# Altium integrated library Kondensator_DIP.IntLib: 1521 symbols (part 1 of 5)
Pins are listed as number, name and electrical type; pins without a type are passive.

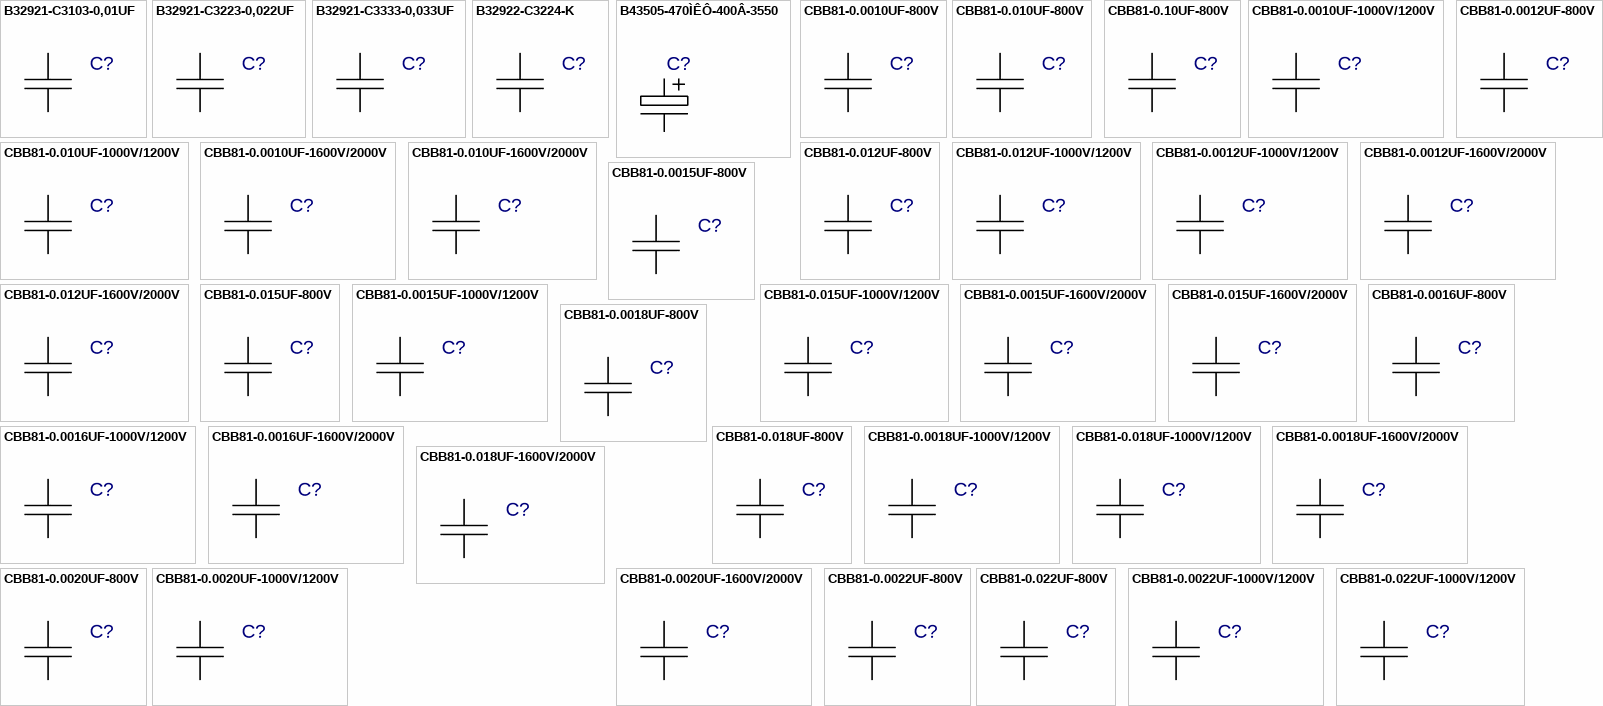
[diagram p0: symbols B32921-C3103-0,01UF to CBB81-0.022UF-1000V/1200V]

## B32921-C3103-0,01UF
designator C?  (value not drawn)
Value: *
footprint B32921(13X4)
pins: 1, 2

## B32921-C3223-0,022UF
designator C?  (value not drawn)
Value: *
footprint B32921(13X4)
pins: 1, 2

## B32921-C3333-0,033UF
designator C?  (value not drawn)
Value: *
footprint B32921(13X4)
pins: 1, 2

## B32922-C3224-K
designator C?  (value not drawn)
Value: *
footprint B32652A6104J
pins: 1, 2

## B43505-470ÌÊÔ-400Â-3550
designator C?  (value not drawn)
Value: *
footprint B43505-3550
pins: 1, 2, 3 hidden

## CBB81-0.0010UF-800V
designator C?  (value not drawn)
Value: *
footprint CBB81-18P5_7
pins: 1, 2

## CBB81-0.010UF-800V
designator C?  (value not drawn)
Value: *
footprint CBB81-18P5_12
pins: 1, 2

## CBB81-0.10UF-800V
designator C?  (value not drawn)
Value: *
footprint CBB81-26_13
pins: 1, 2

## CBB81-0.0010UF-1000V/1200V
designator C?  (value not drawn)
Value: *
footprint CBB81-18P5_7
pins: 1, 2

## CBB81-0.010UF-1000V/1200V
designator C?  (value not drawn)
Value: *
footprint CBB81-23_9
pins: 1, 2

## CBB81-0.0010UF-1600V/2000V
designator C?  (value not drawn)
Value: *
footprint CBB81-18P5_7
pins: 1, 2

## CBB81-0.010UF-1600V/2000V
designator C?  (value not drawn)
Value: *
footprint CBB81-29_8P5
pins: 1, 2

## CBB81-0.0012UF-800V
designator C?  (value not drawn)
Value: *
footprint CBB81-18P5_7
pins: 1, 2

## CBB81-0.012UF-800V
designator C?  (value not drawn)
Value: *
footprint CBB81-18P5_8
pins: 1, 2

## CBB81-0.012UF-1000V/1200V
designator C?  (value not drawn)
Value: *
footprint CBB81-23_10
pins: 1, 2

## CBB81-0.0012UF-1000V/1200V
designator C?  (value not drawn)
Value: *
footprint CBB81-18P5_7
pins: 1, 2

## CBB81-0.0012UF-1600V/2000V
designator C?  (value not drawn)
Value: *
footprint CBB81-18P5_7
pins: 1, 2

## CBB81-0.012UF-1600V/2000V
designator C?  (value not drawn)
Value: *
footprint CBB81-29_9P5
pins: 1, 2

## CBB81-0.0015UF-800V
designator C?  (value not drawn)
Value: *
footprint CBB81-18P5_7P5
pins: 1, 2

## CBB81-0.015UF-800V
designator C?  (value not drawn)
Value: *
footprint CBB81-18P5_8P5
pins: 1, 2

## CBB81-0.0015UF-1000V/1200V
designator C?  (value not drawn)
Value: *
footprint CBB81-18P5_7P5
pins: 1, 2

## CBB81-0.015UF-1000V/1200V
designator C?  (value not drawn)
Value: *
footprint CBB81-29_9
pins: 1, 2

## CBB81-0.0015UF-1600V/2000V
designator C?  (value not drawn)
Value: *
footprint CBB81-18P5_7P5
pins: 1, 2

## CBB81-0.015UF-1600V/2000V
designator C?  (value not drawn)
Value: *
footprint CBB81-29_9P5
pins: 1, 2

## CBB81-0.0016UF-800V
designator C?  (value not drawn)
Value: *
footprint CBB81-18P5_8
pins: 1, 2

## CBB81-0.0016UF-1000V/1200V
designator C?  (value not drawn)
Value: *
footprint CBB81-18P5_8
pins: 1, 2

## CBB81-0.0016UF-1600V/2000V
designator C?  (value not drawn)
Value: *
footprint CBB81-18P5_8
pins: 1, 2

## CBB81-0.0018UF-800V
designator C?  (value not drawn)
Value: *
footprint CBB81-18P5_8
pins: 1, 2

## CBB81-0.018UF-800V
designator C?  (value not drawn)
Value: *
footprint CBB81-18P5_9P5
pins: 1, 2

## CBB81-0.0018UF-1000V/1200V
designator C?  (value not drawn)
Value: *
footprint CBB81-18P5_8
pins: 1, 2

## CBB81-0.018UF-1000V/1200V
designator C?  (value not drawn)
Value: *
footprint CBB81-29_9P5
pins: 1, 2

## CBB81-0.0018UF-1600V/2000V
designator C?  (value not drawn)
Value: *
footprint CBB81-18P5_8
pins: 1, 2

## CBB81-0.018UF-1600V/2000V
designator C?  (value not drawn)
Value: *
footprint CBB81-29_10P5
pins: 1, 2

## CBB81-0.0020UF-800V
designator C?  (value not drawn)
Value: *
footprint CBB81-18P5_8P5
pins: 1, 2

## CBB81-0.0020UF-1000V/1200V
designator C?  (value not drawn)
Value: *
footprint CBB81-18P5_8P5
pins: 1, 2

## CBB81-0.0020UF-1600V/2000V
designator C?  (value not drawn)
Value: *
footprint CBB81-18P5_8P5
pins: 1, 2

## CBB81-0.0022UF-800V
designator C?  (value not drawn)
Value: *
footprint CBB81-18P5_9
pins: 1, 2

## CBB81-0.022UF-800V
designator C?  (value not drawn)
Value: *
footprint CBB81-18P5_10
pins: 1, 2

## CBB81-0.0022UF-1000V/1200V
designator C?  (value not drawn)
Value: *
footprint CBB81-18P5_9
pins: 1, 2

## CBB81-0.022UF-1000V/1200V
designator C?  (value not drawn)
Value: *
footprint CBB81-29_10
pins: 1, 2

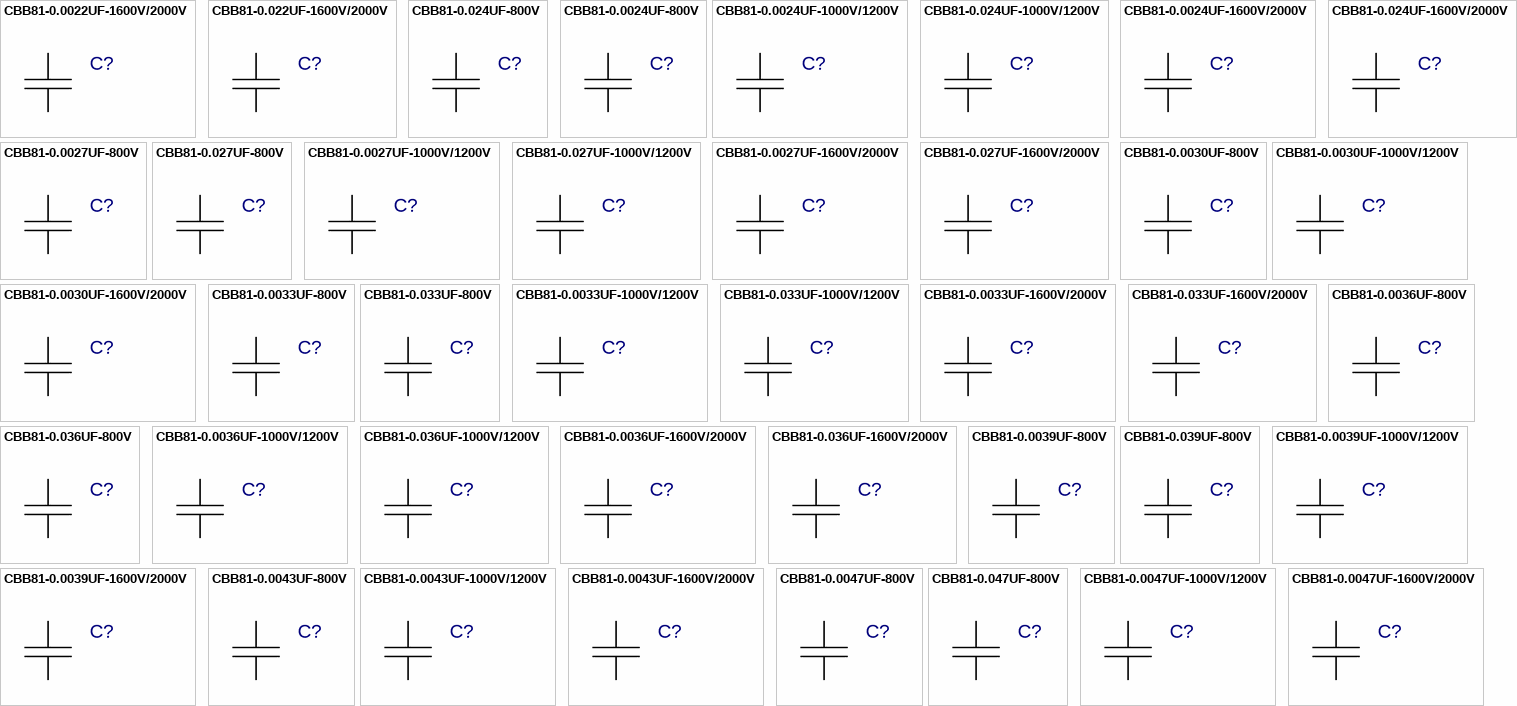
[diagram p1: symbols CBB81-0.0022UF-1600V/2000V to CBB81-0.0047UF-1600V/2000V]

## CBB81-0.0022UF-1600V/2000V
designator C?  (value not drawn)
Value: *
footprint CBB81-18P5_9
pins: 1, 2

## CBB81-0.022UF-1600V/2000V
designator C?  (value not drawn)
Value: *
footprint CBB81-29_12
pins: 1, 2

## CBB81-0.024UF-800V
designator C?  (value not drawn)
Value: *
footprint CBB81-18P5_10P5
pins: 1, 2

## CBB81-0.0024UF-800V
designator C?  (value not drawn)
Value: *
footprint CBB81-18P5_9
pins: 1, 2

## CBB81-0.0024UF-1000V/1200V
designator C?  (value not drawn)
Value: *
footprint CBB81-18P5_9
pins: 1, 2

## CBB81-0.024UF-1000V/1200V
designator C?  (value not drawn)
Value: *
footprint CBB81-29_10P5
pins: 1, 2

## CBB81-0.0024UF-1600V/2000V
designator C?  (value not drawn)
Value: *
footprint CBB81-18P5_9
pins: 1, 2

## CBB81-0.024UF-1600V/2000V
designator C?  (value not drawn)
Value: *
footprint CBB81-29_12
pins: 1, 2

## CBB81-0.0027UF-800V
designator C?  (value not drawn)
Value: *
footprint CBB81-18P5_9P5
pins: 1, 2

## CBB81-0.027UF-800V
designator C?  (value not drawn)
Value: *
footprint CBB81-18P5_11
pins: 1, 2

## CBB81-0.0027UF-1000V/1200V
designator C?  (value not drawn)
Value: *
footprint CBB81-18P5_9P5
pins: 1, 2

## CBB81-0.027UF-1000V/1200V
designator C?  (value not drawn)
Value: *
footprint CBB81-29_11
pins: 1, 2

## CBB81-0.0027UF-1600V/2000V
designator C?  (value not drawn)
Value: *
footprint CBB81-18P5_9P5
pins: 1, 2

## CBB81-0.027UF-1600V/2000V
designator C?  (value not drawn)
Value: *
footprint CBB81-31_12
pins: 1, 2

## CBB81-0.0030UF-800V
designator C?  (value not drawn)
Value: *
footprint CBB81-18P5_10
pins: 1, 2

## CBB81-0.0030UF-1000V/1200V
designator C?  (value not drawn)
Value: *
footprint CBB81-18P5_10
pins: 1, 2

## CBB81-0.0030UF-1600V/2000V
designator C?  (value not drawn)
Value: *
footprint CBB81-18P5_10
pins: 1, 2

## CBB81-0.0033UF-800V
designator C?  (value not drawn)
Value: *
footprint CBB81-18P5_10
pins: 1, 2

## CBB81-0.033UF-800V
designator C?  (value not drawn)
Value: *
footprint CBB81-23_9P5
pins: 1, 2

## CBB81-0.0033UF-1000V/1200V
designator C?  (value not drawn)
Value: *
footprint CBB81-18P5_10
pins: 1, 2

## CBB81-0.033UF-1000V/1200V
designator C?  (value not drawn)
Value: *
footprint CBB81-29_12
pins: 1, 2

## CBB81-0.0033UF-1600V/2000V
designator C?  (value not drawn)
Value: *
footprint CBB81-18P5_10
pins: 1, 2

## CBB81-0.033UF-1600V/2000V
designator C?  (value not drawn)
Value: *
footprint CBB81-31_13
pins: 1, 2

## CBB81-0.0036UF-800V
designator C?  (value not drawn)
Value: *
footprint CBB81-18P5_8
pins: 1, 2

## CBB81-0.036UF-800V
designator C?  (value not drawn)
Value: *
footprint CBB81-23_9P5
pins: 1, 2

## CBB81-0.0036UF-1000V/1200V
designator C?  (value not drawn)
Value: *
footprint CBB81-18P5_8
pins: 1, 2

## CBB81-0.036UF-1000V/1200V
designator C?  (value not drawn)
Value: *
footprint CBB81-29_12P5
pins: 1, 2

## CBB81-0.0036UF-1600V/2000V
designator C?  (value not drawn)
Value: *
footprint CBB81-23_9
pins: 1, 2

## CBB81-0.036UF-1600V/2000V
designator C?  (value not drawn)
Value: *
footprint CBB81-31_13P5
pins: 1, 2

## CBB81-0.0039UF-800V
designator C?  (value not drawn)
Value: *
footprint CBB81-18P5_8P5
pins: 1, 2

## CBB81-0.039UF-800V
designator C?  (value not drawn)
Value: *
footprint CBB81-23_10
pins: 1, 2

## CBB81-0.0039UF-1000V/1200V
designator C?  (value not drawn)
Value: *
footprint CBB81-18P5_8P5
pins: 1, 2

## CBB81-0.0039UF-1600V/2000V
designator C?  (value not drawn)
Value: *
footprint CBB81-23_9
pins: 1, 2

## CBB81-0.0043UF-800V
designator C?  (value not drawn)
Value: *
footprint CBB81-18P5_8P5
pins: 1, 2

## CBB81-0.0043UF-1000V/1200V
designator C?  (value not drawn)
Value: *
footprint CBB81-18P5_8P5
pins: 1, 2

## CBB81-0.0043UF-1600V/2000V
designator C?  (value not drawn)
Value: *
footprint CBB81-23_9
pins: 1, 2

## CBB81-0.0047UF-800V
designator C?  (value not drawn)
Value: *
footprint CBB81-18P5_9
pins: 1, 2

## CBB81-0.047UF-800V
designator C?  (value not drawn)
Value: *
footprint CBB81-23_11
pins: 1, 2

## CBB81-0.0047UF-1000V/1200V
designator C?  (value not drawn)
Value: *
footprint CBB81-18P5_9
pins: 1, 2

## CBB81-0.0047UF-1600V/2000V
designator C?  (value not drawn)
Value: *
footprint CBB81-23_9P5
pins: 1, 2

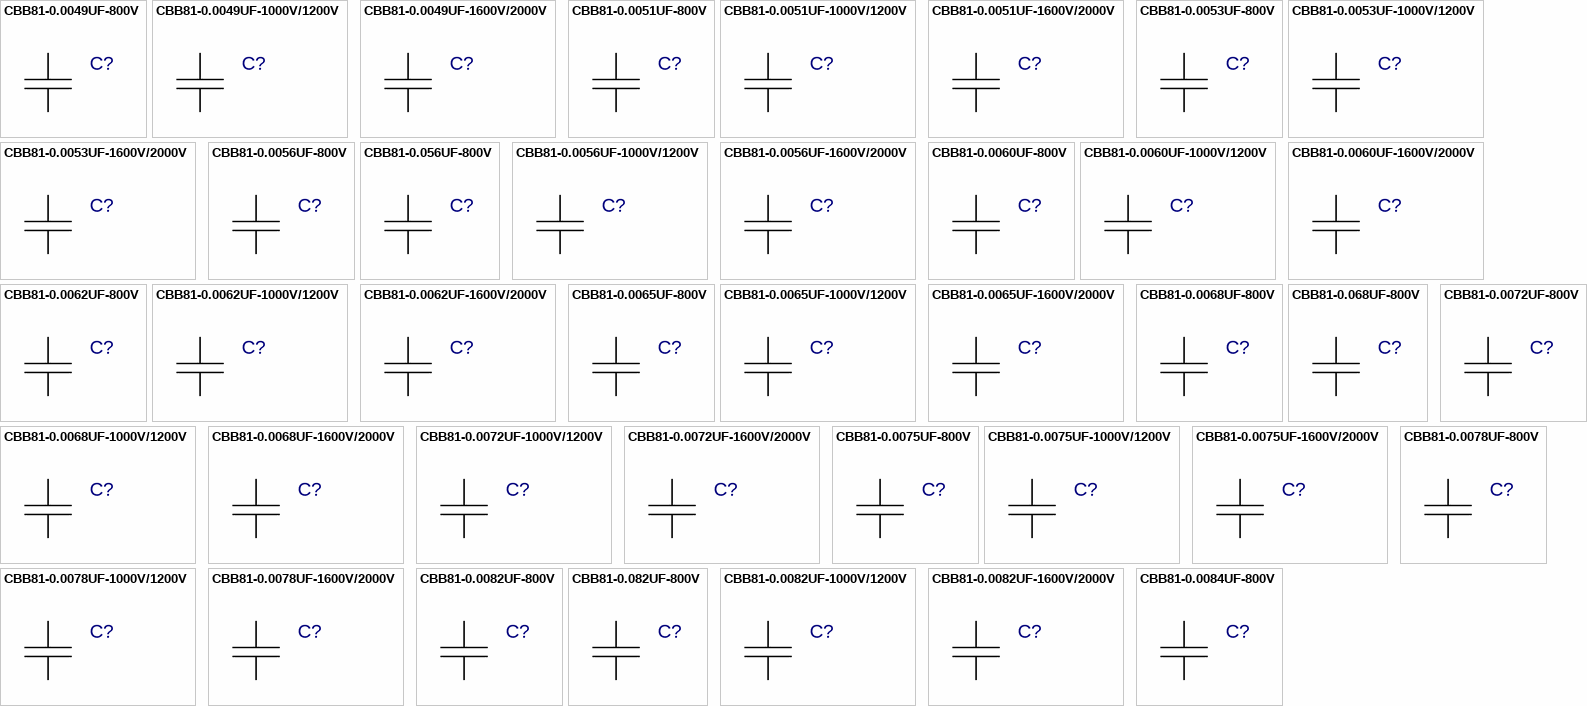
[diagram p2: symbols CBB81-0.0049UF-800V to CBB81-0.0084UF-800V]

## CBB81-0.0049UF-800V
designator C?  (value not drawn)
Value: *
footprint CBB81-18P5_9
pins: 1, 2

## CBB81-0.0049UF-1000V/1200V
designator C?  (value not drawn)
Value: *
footprint CBB81-18P5_9
pins: 1, 2

## CBB81-0.0049UF-1600V/2000V
designator C?  (value not drawn)
Value: *
footprint CBB81-23_9P5
pins: 1, 2

## CBB81-0.0051UF-800V
designator C?  (value not drawn)
Value: *
footprint CBB81-18P5_9
pins: 1, 2

## CBB81-0.0051UF-1000V/1200V
designator C?  (value not drawn)
Value: *
footprint CBB81-18P5_9
pins: 1, 2

## CBB81-0.0051UF-1600V/2000V
designator C?  (value not drawn)
Value: *
footprint CBB81-23_10
pins: 1, 2

## CBB81-0.0053UF-800V
designator C?  (value not drawn)
Value: *
footprint CBB81-18P5_9P5
pins: 1, 2

## CBB81-0.0053UF-1000V/1200V
designator C?  (value not drawn)
Value: *
footprint CBB81-18P5_9P5
pins: 1, 2

## CBB81-0.0053UF-1600V/2000V
designator C?  (value not drawn)
Value: *
footprint CBB81-23_10
pins: 1, 2

## CBB81-0.0056UF-800V
designator C?  (value not drawn)
Value: *
footprint CBB81-18P5_9P5
pins: 1, 2

## CBB81-0.056UF-800V
designator C?  (value not drawn)
Value: *
footprint CBB81-23_11P5
pins: 1, 2

## CBB81-0.0056UF-1000V/1200V
designator C?  (value not drawn)
Value: *
footprint CBB81-18P5_9P5
pins: 1, 2

## CBB81-0.0056UF-1600V/2000V
designator C?  (value not drawn)
Value: *
footprint CBB81-23_10
pins: 1, 2

## CBB81-0.0060UF-800V
designator C?  (value not drawn)
Value: *
footprint CBB81-18P5_10
pins: 1, 2

## CBB81-0.0060UF-1000V/1200V
designator C?  (value not drawn)
Value: *
footprint CBB81-23_7P5
pins: 1, 2

## CBB81-0.0060UF-1600V/2000V
designator C?  (value not drawn)
Value: *
footprint CBB81-23_8P5
pins: 1, 2

## CBB81-0.0062UF-800V
designator C?  (value not drawn)
Value: *
footprint CBB81-18P5_10
pins: 1, 2

## CBB81-0.0062UF-1000V/1200V
designator C?  (value not drawn)
Value: *
footprint CBB81-23_7P5
pins: 1, 2

## CBB81-0.0062UF-1600V/2000V
designator C?  (value not drawn)
Value: *
footprint CBB81-23_9
pins: 1, 2

## CBB81-0.0065UF-800V
designator C?  (value not drawn)
Value: *
footprint CBB81-18P5_10
pins: 1, 2

## CBB81-0.0065UF-1000V/1200V
designator C?  (value not drawn)
Value: *
footprint CBB81-23_8
pins: 1, 2

## CBB81-0.0065UF-1600V/2000V
designator C?  (value not drawn)
Value: *
footprint CBB81-23_9
pins: 1, 2

## CBB81-0.0068UF-800V
designator C?  (value not drawn)
Value: *
footprint CBB81-18P5_10P5
pins: 1, 2

## CBB81-0.068UF-800V
designator C?  (value not drawn)
Value: *
footprint CBB81-26_11
pins: 1, 2

## CBB81-0.0068UF-1000V/1200V
designator C?  (value not drawn)
Value: *
footprint CBB81-23_8
pins: 1, 2

## CBB81-0.0068UF-1600V/2000V
designator C?  (value not drawn)
Value: *
footprint CBB81-23_9
pins: 1, 2

## CBB81-0.0072UF-800V
designator C?  (value not drawn)
Value: *
footprint CBB81-18P5_10P5
pins: 1, 2

## CBB81-0.0072UF-1000V/1200V
designator C?  (value not drawn)
Value: *
footprint CBB81-23_8
pins: 1, 2

## CBB81-0.0072UF-1600V/2000V
designator C?  (value not drawn)
Value: *
footprint CBB81-23_9P5
pins: 1, 2

## CBB81-0.0075UF-800V
designator C?  (value not drawn)
Value: *
footprint CBB81-18P5_10P5
pins: 1, 2

## CBB81-0.0075UF-1000V/1200V
designator C?  (value not drawn)
Value: *
footprint CBB81-23_8
pins: 1, 2

## CBB81-0.0075UF-1600V/2000V
designator C?  (value not drawn)
Value: *
footprint CBB81-23_9P5
pins: 1, 2

## CBB81-0.0078UF-800V
designator C?  (value not drawn)
Value: *
footprint CBB81-18P5_11
pins: 1, 2

## CBB81-0.0078UF-1000V/1200V
designator C?  (value not drawn)
Value: *
footprint CBB81-23_8P5
pins: 1, 2

## CBB81-0.0078UF-1600V/2000V
designator C?  (value not drawn)
Value: *
footprint CBB81-23_9P5
pins: 1, 2

## CBB81-0.0082UF-800V
designator C?  (value not drawn)
Value: *
footprint CBB81-18P5_11
pins: 1, 2

## CBB81-0.082UF-800V
designator C?  (value not drawn)
Value: *
footprint CBB81-26_12
pins: 1, 2

## CBB81-0.0082UF-1000V/1200V
designator C?  (value not drawn)
Value: *
footprint CBB81-23_8P5
pins: 1, 2

## CBB81-0.0082UF-1600V/2000V
designator C?  (value not drawn)
Value: *
footprint CBB81-23_10
pins: 1, 2

## CBB81-0.0084UF-800V
designator C?  (value not drawn)
Value: *
footprint CBB81-18P5_11
pins: 1, 2

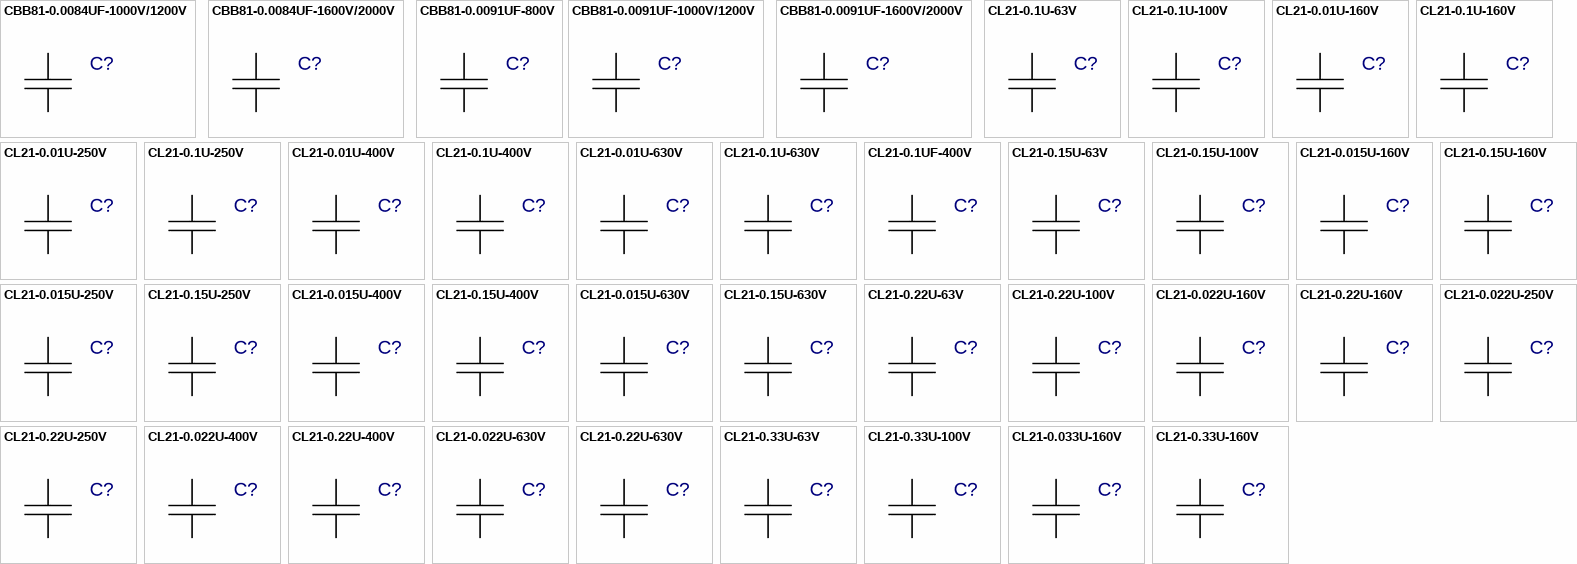
[diagram p3: symbols CBB81-0.0084UF-1000V/1200V to CL21-0.33U-160V]

## CBB81-0.0084UF-1000V/1200V
designator C?  (value not drawn)
Value: *
footprint CBB81-23_8P5
pins: 1, 2

## CBB81-0.0084UF-1600V/2000V
designator C?  (value not drawn)
Value: *
footprint CBB81-23_10
pins: 1, 2

## CBB81-0.0091UF-800V
designator C?  (value not drawn)
Value: *
footprint CBB81-18P5_11P5
pins: 1, 2

## CBB81-0.0091UF-1000V/1200V
designator C?  (value not drawn)
Value: *
footprint CBB81-23_9
pins: 1, 2

## CBB81-0.0091UF-1600V/2000V
designator C?  (value not drawn)
Value: *
footprint CBB81-23_11
pins: 1, 2

## CL21-0.1U-63V
designator C?  (value not drawn)
Value: *
footprint CL21-1205
pins: 1, 2

## CL21-0.1U-100V
designator C?  (value not drawn)
Value: *
footprint CL21-1205
pins: 1, 2

## CL21-0.01U-160V
designator C?  (value not drawn)
Value: *
footprint CL21-1205
pins: 1, 2

## CL21-0.1U-160V
designator C?  (value not drawn)
Value: *
footprint CL21-1206P5
pins: 1, 2

## CL21-0.01U-250V
designator C?  (value not drawn)
Value: *
footprint CL21-1205
pins: 1, 2

## CL21-0.1U-250V
designator C?  (value not drawn)
Value: *
footprint CL21-1206P5
pins: 1, 2

## CL21-0.01U-400V
designator C?  (value not drawn)
Value: *
footprint CL21-1205
pins: 1, 2

## CL21-0.1U-400V
designator C?  (value not drawn)
Value: *
footprint CL21-1207
pins: 1, 2

## CL21-0.01U-630V
designator C?  (value not drawn)
Value: *
footprint CL21-1205
pins: 1, 2

## CL21-0.1U-630V
designator C?  (value not drawn)
Value: *
footprint CL21-1808
pins: 1, 2

## CL21-0.1UF-400V
designator C?  (value not drawn)
Value: *
footprint CL21(12X5)
pins: 1, 2

## CL21-0.15U-63V
designator C?  (value not drawn)
Value: *
footprint CL21-1205
pins: 1, 2

## CL21-0.15U-100V
designator C?  (value not drawn)
Value: *
footprint CL21-1205
pins: 1, 2

## CL21-0.015U-160V
designator C?  (value not drawn)
Value: *
footprint CL21-1206
pins: 1, 2

## CL21-0.15U-160V
designator C?  (value not drawn)
Value: *
footprint CL21-1206P5
pins: 1, 2

## CL21-0.015U-250V
designator C?  (value not drawn)
Value: *
footprint CL21-1206
pins: 1, 2

## CL21-0.15U-250V
designator C?  (value not drawn)
Value: *
footprint CL21-1206P5
pins: 1, 2

## CL21-0.015U-400V
designator C?  (value not drawn)
Value: *
footprint CL21-1206
pins: 1, 2

## CL21-0.15U-400V
designator C?  (value not drawn)
Value: *
footprint CL21-1807P5
pins: 1, 2

## CL21-0.015U-630V
designator C?  (value not drawn)
Value: *
footprint CL21-1205
pins: 1, 2

## CL21-0.15U-630V
designator C?  (value not drawn)
Value: *
footprint CL21-1809P5
pins: 1, 2

## CL21-0.22U-63V
designator C?  (value not drawn)
Value: *
footprint CL21-1206
pins: 1, 2

## CL21-0.22U-100V
designator C?  (value not drawn)
Value: *
footprint CL21-1206
pins: 1, 2

## CL21-0.022U-160V
designator C?  (value not drawn)
Value: *
footprint CL21-1206
pins: 1, 2

## CL21-0.22U-160V
designator C?  (value not drawn)
Value: *
footprint CL21-1206P5
pins: 1, 2

## CL21-0.022U-250V
designator C?  (value not drawn)
Value: *
footprint CL21-1206
pins: 1, 2

## CL21-0.22U-250V
designator C?  (value not drawn)
Value: *
footprint CL21-1206P5
pins: 1, 2

## CL21-0.022U-400V
designator C?  (value not drawn)
Value: *
footprint CL21-1206
pins: 1, 2

## CL21-0.22U-400V
designator C?  (value not drawn)
Value: *
footprint CL21-1808
pins: 1, 2

## CL21-0.022U-630V
designator C?  (value not drawn)
Value: *
footprint CL21-1206
pins: 1, 2

## CL21-0.22U-630V
designator C?  (value not drawn)
Value: *
footprint CL21-1811
pins: 1, 2

## CL21-0.33U-63V
designator C?  (value not drawn)
Value: *
footprint CL21-1206
pins: 1, 2

## CL21-0.33U-100V
designator C?  (value not drawn)
Value: *
footprint CL21-1206
pins: 1, 2

## CL21-0.033U-160V
designator C?  (value not drawn)
Value: *
footprint CL21-1206
pins: 1, 2

## CL21-0.33U-160V
designator C?  (value not drawn)
Value: *
footprint CL21-1207
pins: 1, 2

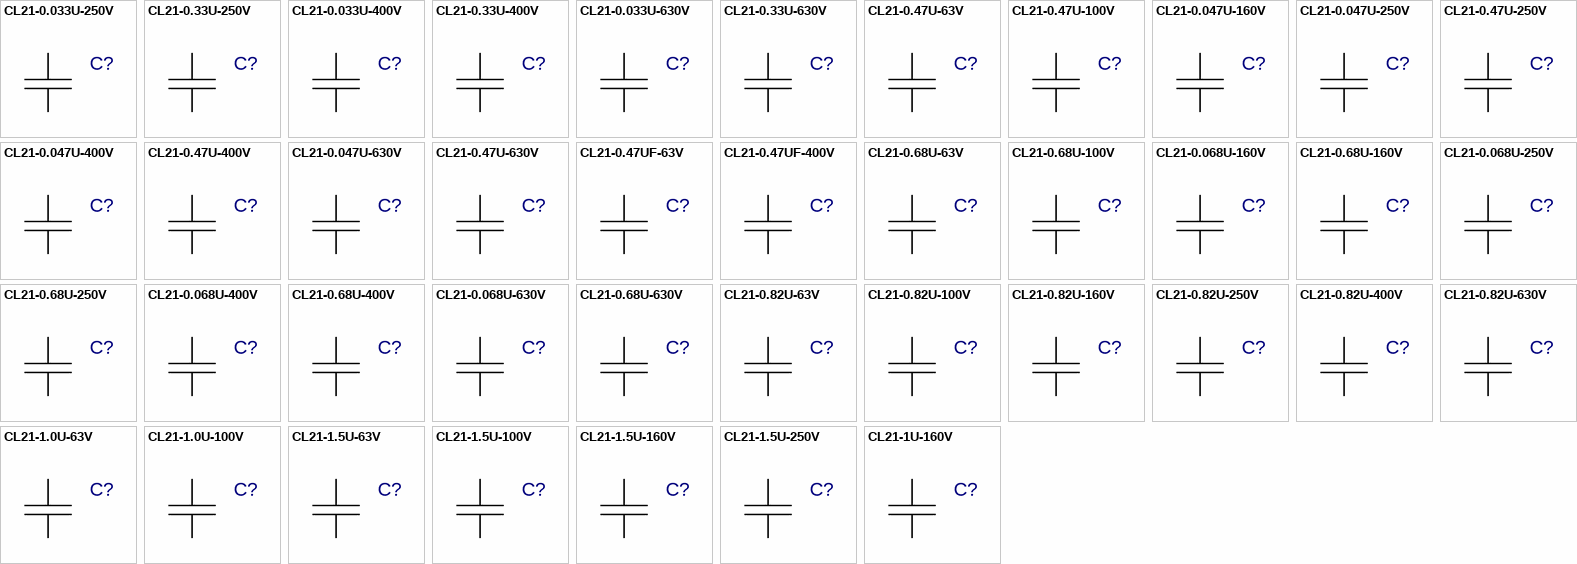
[diagram p4: symbols CL21-0.033U-250V to CL21-1U-160V]

## CL21-0.033U-250V
designator C?  (value not drawn)
Value: *
footprint CL21-1206
pins: 1, 2

## CL21-0.33U-250V
designator C?  (value not drawn)
Value: *
footprint CL21-1207
pins: 1, 2

## CL21-0.033U-400V
designator C?  (value not drawn)
Value: *
footprint CL21-1206
pins: 1, 2

## CL21-0.33U-400V
designator C?  (value not drawn)
Value: *
footprint CL21-1809P5
pins: 1, 2

## CL21-0.033U-630V
designator C?  (value not drawn)
Value: *
footprint CL21-1207
pins: 1, 2

## CL21-0.33U-630V
designator C?  (value not drawn)
Value: *
footprint CL21-2510P5
pins: 1, 2

## CL21-0.47U-63V
designator C?  (value not drawn)
Value: *
footprint CL21-1206P5
pins: 1, 2

## CL21-0.47U-100V
designator C?  (value not drawn)
Value: *
footprint CL21-1206P5
pins: 1, 2

## CL21-0.047U-160V
designator C?  (value not drawn)
Value: *
footprint CL21-1206
pins: 1, 2

## CL21-0.047U-250V
designator C?  (value not drawn)
Value: *
footprint CL21-1206
pins: 1, 2

## CL21-0.47U-250V
designator C?  (value not drawn)
Value: *
footprint CL21-1207
pins: 1, 2

## CL21-0.047U-400V
designator C?  (value not drawn)
Value: *
footprint CL21-1207
pins: 1, 2

## CL21-0.47U-400V
designator C?  (value not drawn)
Value: *
footprint CL21-1811
pins: 1, 2

## CL21-0.047U-630V
designator C?  (value not drawn)
Value: *
footprint CL21-1807
pins: 1, 2

## CL21-0.47U-630V
designator C?  (value not drawn)
Value: *
footprint CL21-2510P5
pins: 1, 2

## CL21-0.47UF-63V
designator C?  (value not drawn)
Value: *
footprint CL21(12P5X6P5)
pins: 1, 2

## CL21-0.47UF-400V
designator C?  (value not drawn)
Value: *
footprint CL21(18X11)
pins: 1, 2

## CL21-0.68U-63V
designator C?  (value not drawn)
Value: *
footprint CL21-1206P5
pins: 1, 2

## CL21-0.68U-100V
designator C?  (value not drawn)
Value: *
footprint CL21-1206P5
pins: 1, 2

## CL21-0.068U-160V
designator C?  (value not drawn)
Value: *
footprint CL21-1206
pins: 1, 2

## CL21-0.68U-160V
designator C?  (value not drawn)
Value: *
footprint CL21-1808
pins: 1, 2

## CL21-0.068U-250V
designator C?  (value not drawn)
Value: *
footprint CL21-1206
pins: 1, 2

## CL21-0.68U-250V
designator C?  (value not drawn)
Value: *
footprint CL21-1808
pins: 1, 2

## CL21-0.068U-400V
designator C?  (value not drawn)
Value: *
footprint CL21-1206P5
pins: 1, 2

## CL21-0.68U-400V
designator C?  (value not drawn)
Value: *
footprint CL21-2408
pins: 1, 2

## CL21-0.068U-630V
designator C?  (value not drawn)
Value: *
footprint CL21-1807P5
pins: 1, 2

## CL21-0.68U-630V
designator C?  (value not drawn)
Value: *
footprint CL21-2912P5
pins: 1, 2

## CL21-0.82U-63V
designator C?  (value not drawn)
Value: *
footprint CL21-1807
pins: 1, 2

## CL21-0.82U-100V
designator C?  (value not drawn)
Value: *
footprint CL21-1807
pins: 1, 2

## CL21-0.82U-160V
designator C?  (value not drawn)
Value: *
footprint CL21-1809
pins: 1, 2

## CL21-0.82U-250V
designator C?  (value not drawn)
Value: *
footprint CL21-1809
pins: 1, 2

## CL21-0.82U-400V
designator C?  (value not drawn)
Value: *
footprint CL21-2412
pins: 1, 2

## CL21-0.82U-630V
designator C?  (value not drawn)
Value: *
footprint CL21-2913
pins: 1, 2

## CL21-1.0U-63V
designator C?  (value not drawn)
Value: *
footprint CL21-1807P5
pins: 1, 2

## CL21-1.0U-100V
designator C?  (value not drawn)
Value: *
footprint CL21-1807P5
pins: 1, 2

## CL21-1.5U-63V
designator C?  (value not drawn)
Value: *
footprint CL21-1807P5
pins: 1, 2

## CL21-1.5U-100V
designator C?  (value not drawn)
Value: *
footprint CL21-1807P5
pins: 1, 2

## CL21-1.5U-160V
designator C?  (value not drawn)
Value: *
footprint CL21-2408P5
pins: 1, 2

## CL21-1.5U-250V
designator C?  (value not drawn)
Value: *
footprint CL21-2408P5
pins: 1, 2

## CL21-1U-160V
designator C?  (value not drawn)
Value: *
footprint CL21-1809P5
pins: 1, 2

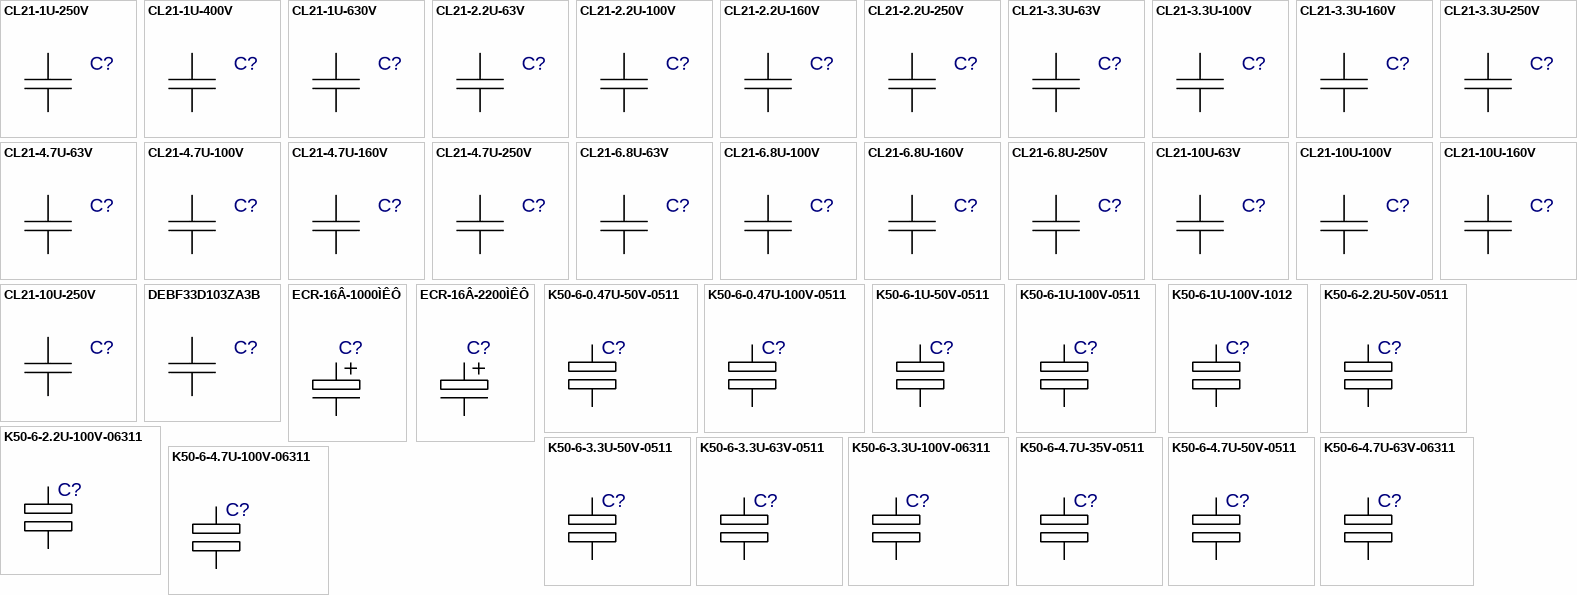
[diagram p5: symbols CL21-1U-250V to K50-6-4.7U-100V-06311]

## CL21-1U-250V
designator C?  (value not drawn)
Value: *
footprint CL21-1809P5
pins: 1, 2

## CL21-1U-400V
designator C?  (value not drawn)
Value: *
footprint CL21-2413
pins: 1, 2

## CL21-1U-630V
designator C?  (value not drawn)
Value: *
footprint CL21-2913P5
pins: 1, 2

## CL21-2.2U-63V
designator C?  (value not drawn)
Value: *
footprint CL21-2408P5
pins: 1, 2

## CL21-2.2U-100V
designator C?  (value not drawn)
Value: *
footprint CL21-2408P5
pins: 1, 2

## CL21-2.2U-160V
designator C?  (value not drawn)
Value: *
footprint CL21-2410P5
pins: 1, 2

## CL21-2.2U-250V
designator C?  (value not drawn)
Value: *
footprint CL21-2410P5
pins: 1, 2

## CL21-3.3U-63V
designator C?  (value not drawn)
Value: *
footprint CL21-2410
pins: 1, 2

## CL21-3.3U-100V
designator C?  (value not drawn)
Value: *
footprint CL21-2410
pins: 1, 2

## CL21-3.3U-160V
designator C?  (value not drawn)
Value: *
footprint CL21-2911P5
pins: 1, 2

## CL21-3.3U-250V
designator C?  (value not drawn)
Value: *
footprint CL21-2911P5
pins: 1, 2

## CL21-4.7U-63V
designator C?  (value not drawn)
Value: *
footprint CL21-2410P5
pins: 1, 2

## CL21-4.7U-100V
designator C?  (value not drawn)
Value: *
footprint CL21-2410P5
pins: 1, 2

## CL21-4.7U-160V
designator C?  (value not drawn)
Value: *
footprint CL21-2913P5
pins: 1, 2

## CL21-4.7U-250V
designator C?  (value not drawn)
Value: *
footprint CL21-2913P5
pins: 1, 2

## CL21-6.8U-63V
designator C?  (value not drawn)
Value: *
footprint CL21-2912
pins: 1, 2

## CL21-6.8U-100V
designator C?  (value not drawn)
Value: *
footprint CL21-2912
pins: 1, 2

## CL21-6.8U-160V
designator C?  (value not drawn)
Value: *
footprint CL21-2913P5
pins: 1, 2

## CL21-6.8U-250V
designator C?  (value not drawn)
Value: *
footprint CL21-2913P5
pins: 1, 2

## CL21-10U-63V
designator C?  (value not drawn)
Value: *
footprint CL21-2914P5
pins: 1, 2

## CL21-10U-100V
designator C?  (value not drawn)
Value: *
footprint CL21-2914P5
pins: 1, 2

## CL21-10U-160V
designator C?  (value not drawn)
Value: *
footprint CL21-2914P5
pins: 1, 2

## CL21-10U-250V
designator C?  (value not drawn)
Value: *
footprint CL21-2914P5
pins: 1, 2

## DEBF33D103ZA3B
designator C?  (value not drawn)
Value: *
footprint ÑÍ2-1B
pins: 1, 2

## ECR-16Â-1000ÌÊÔ
designator C?  (value not drawn)
Value: *
footprint ECR-16Â-1000ÌÊÔ
pins: 1, 2

## ECR-16Â-2200ÌÊÔ
designator C?  (value not drawn)
Value: *
footprint ECR-16Â-2200ÌÊÔ
pins: 1, 2, 3 hidden, 4 hidden

## K50-6-0.47U-50V-0511
designator C?  (value not drawn)
Author: pcbdesigner.ru; Value: *
footprint K50-6-0511
pins: 1, 2

## K50-6-0.47U-100V-0511
designator C?  (value not drawn)
Author: pcbdesigner.ru; Value: *
footprint K50-6-0511
pins: 1, 2

## K50-6-1U-50V-0511
designator C?  (value not drawn)
Author: pcbdesigner.ru; Value: *
footprint K50-6-0511
pins: 1, 2

## K50-6-1U-100V-0511
designator C?  (value not drawn)
Author: pcbdesigner.ru; Value: *
footprint K50-6-0511
pins: 1, 2

## K50-6-1U-100V-1012
designator C?  (value not drawn)
Author: pcbdesigner.ru; Value: *
footprint K50-6-1012
pins: 1, 2

## K50-6-2.2U-50V-0511
designator C?  (value not drawn)
Author: pcbdesigner.ru; Value: *
footprint K50-6-0511
pins: 1, 2

## K50-6-2.2U-100V-06311
designator C?  (value not drawn)
Author: pcbdesigner.ru; Value: *
footprint K50-6-06311
pins: 1, 2

## K50-6-3.3U-50V-0511
designator C?  (value not drawn)
Author: pcbdesigner.ru; Value: *
footprint K50-6-0511
pins: 1, 2

## K50-6-3.3U-63V-0511
designator C?  (value not drawn)
Author: pcbdesigner.ru; Value: *
footprint K50-6-0511
pins: 1, 2

## K50-6-3.3U-100V-06311
designator C?  (value not drawn)
Author: pcbdesigner.ru; Value: *
footprint K50-6-06311
pins: 1, 2

## K50-6-4.7U-35V-0511
designator C?  (value not drawn)
Author: pcbdesigner.ru; Value: *
footprint K50-6-0511
pins: 1, 2

## K50-6-4.7U-50V-0511
designator C?  (value not drawn)
Author: pcbdesigner.ru; Value: *
footprint K50-6-0511
pins: 1, 2

## K50-6-4.7U-63V-06311
designator C?  (value not drawn)
Author: pcbdesigner.ru; Value: *
footprint K50-6-06311
pins: 1, 2

## K50-6-4.7U-100V-06311
designator C?  (value not drawn)
Author: pcbdesigner.ru; Value: *
footprint K50-6-06311
pins: 1, 2

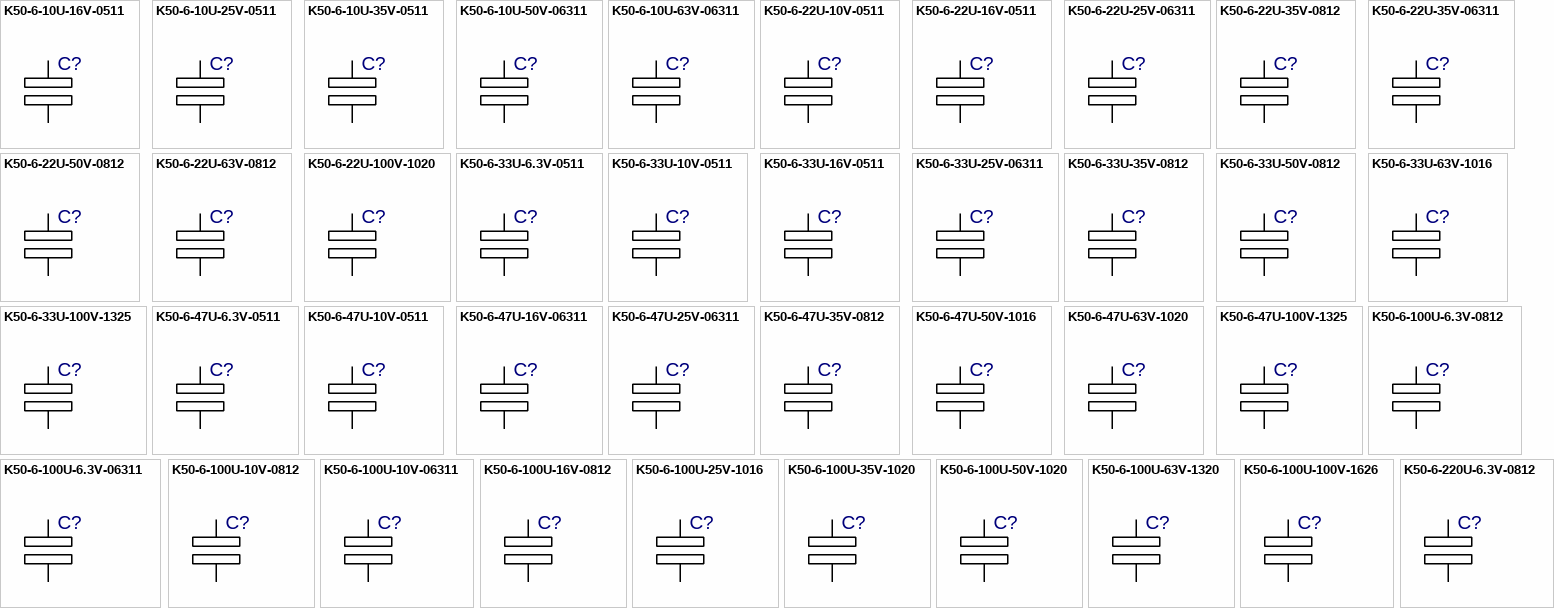
[diagram p6: symbols K50-6-10U-16V-0511 to K50-6-220U-6.3V-0812]

## K50-6-10U-16V-0511
designator C?  (value not drawn)
Author: pcbdesigner.ru; Value: *
footprint K50-6-0511
pins: 1, 2

## K50-6-10U-25V-0511
designator C?  (value not drawn)
Author: pcbdesigner.ru; Value: *
footprint K50-6-0511
pins: 1, 2

## K50-6-10U-35V-0511
designator C?  (value not drawn)
Author: pcbdesigner.ru; Value: *
footprint K50-6-0511
pins: 1, 2

## K50-6-10U-50V-06311
designator C?  (value not drawn)
Author: pcbdesigner.ru; Value: *
footprint K50-6-06311
pins: 1, 2

## K50-6-10U-63V-06311
designator C?  (value not drawn)
Author: pcbdesigner.ru; Value: *
footprint K50-6-06311
pins: 1, 2

## K50-6-22U-10V-0511
designator C?  (value not drawn)
Author: pcbdesigner.ru; Value: *
footprint K50-6-0511
pins: 1, 2

## K50-6-22U-16V-0511
designator C?  (value not drawn)
Author: pcbdesigner.ru; Value: *
footprint K50-6-0511
pins: 1, 2

## K50-6-22U-25V-06311
designator C?  (value not drawn)
Author: pcbdesigner.ru; Value: *
footprint K50-6-06311
pins: 1, 2

## K50-6-22U-35V-0812
designator C?  (value not drawn)
Author: pcbdesigner.ru; Value: *
footprint K50-6-0812
pins: 1, 2

## K50-6-22U-35V-06311
designator C?  (value not drawn)
Author: pcbdesigner.ru; Value: *
footprint K50-6-06311
pins: 1, 2

## K50-6-22U-50V-0812
designator C?  (value not drawn)
Author: pcbdesigner.ru; Value: *
footprint K50-6-0812
pins: 1, 2

## K50-6-22U-63V-0812
designator C?  (value not drawn)
Author: pcbdesigner.ru; Value: *
footprint K50-6-0812
pins: 1, 2

## K50-6-22U-100V-1020
designator C?  (value not drawn)
Author: pcbdesigner.ru; Value: *
footprint K50-6-1020
pins: 1, 2

## K50-6-33U-6.3V-0511
designator C?  (value not drawn)
Author: pcbdesigner.ru; Value: *
footprint K50-6-0511
pins: 1, 2

## K50-6-33U-10V-0511
designator C?  (value not drawn)
Author: pcbdesigner.ru; Value: *
footprint K50-6-0511
pins: 1, 2

## K50-6-33U-16V-0511
designator C?  (value not drawn)
Author: pcbdesigner.ru; Value: *
footprint K50-6-0511
pins: 1, 2

## K50-6-33U-25V-06311
designator C?  (value not drawn)
Author: pcbdesigner.ru; Value: *
footprint K50-6-06311
pins: 1, 2

## K50-6-33U-35V-0812
designator C?  (value not drawn)
Author: pcbdesigner.ru; Value: *
footprint K50-6-0812
pins: 1, 2

## K50-6-33U-50V-0812
designator C?  (value not drawn)
Author: pcbdesigner.ru; Value: *
footprint K50-6-0812
pins: 1, 2

## K50-6-33U-63V-1016
designator C?  (value not drawn)
Author: pcbdesigner.ru; Value: *
footprint K50-6-1016
pins: 1, 2

## K50-6-33U-100V-1325
designator C?  (value not drawn)
Author: pcbdesigner.ru; Value: *
footprint K50-6-1325
pins: 1, 2

## K50-6-47U-6.3V-0511
designator C?  (value not drawn)
Author: pcbdesigner.ru; Value: *
footprint K50-6-0511
pins: 1, 2

## K50-6-47U-10V-0511
designator C?  (value not drawn)
Author: pcbdesigner.ru; Value: *
footprint K50-6-0511
pins: 1, 2

## K50-6-47U-16V-06311
designator C?  (value not drawn)
Author: pcbdesigner.ru; Value: *
footprint K50-6-06311
pins: 1, 2

## K50-6-47U-25V-06311
designator C?  (value not drawn)
Author: pcbdesigner.ru; Value: *
footprint K50-6-06311
pins: 1, 2

## K50-6-47U-35V-0812
designator C?  (value not drawn)
Author: pcbdesigner.ru; Value: *
footprint K50-6-0812
pins: 1, 2

## K50-6-47U-50V-1016
designator C?  (value not drawn)
Author: pcbdesigner.ru; Value: *
footprint K50-6-1016
pins: 1, 2

## K50-6-47U-63V-1020
designator C?  (value not drawn)
Author: pcbdesigner.ru; Value: *
footprint K50-6-1020
pins: 1, 2

## K50-6-47U-100V-1325
designator C?  (value not drawn)
Author: pcbdesigner.ru; Value: *
footprint K50-6-1325
pins: 1, 2

## K50-6-100U-6.3V-0812
designator C?  (value not drawn)
Author: pcbdesigner.ru; Value: *
footprint K50-6-0812
pins: 1, 2

## K50-6-100U-6.3V-06311
designator C?  (value not drawn)
Author: pcbdesigner.ru; Value: *
footprint K50-6-06311
pins: 1, 2

## K50-6-100U-10V-0812
designator C?  (value not drawn)
Author: pcbdesigner.ru; Value: *
footprint K50-6-0812
pins: 1, 2

## K50-6-100U-10V-06311
designator C?  (value not drawn)
Author: pcbdesigner.ru; Value: *
footprint K50-6-06311
pins: 1, 2

## K50-6-100U-16V-0812
designator C?  (value not drawn)
Author: pcbdesigner.ru; Value: *
footprint K50-6-0812
pins: 1, 2

## K50-6-100U-25V-1016
designator C?  (value not drawn)
Author: pcbdesigner.ru; Value: *
footprint K50-6-1016
pins: 1, 2

## K50-6-100U-35V-1020
designator C?  (value not drawn)
Author: pcbdesigner.ru; Value: *
footprint K50-6-1020
pins: 1, 2

## K50-6-100U-50V-1020
designator C?  (value not drawn)
Author: pcbdesigner.ru; Value: *
footprint K50-6-1020
pins: 1, 2

## K50-6-100U-63V-1320
designator C?  (value not drawn)
Author: pcbdesigner.ru; Value: *
footprint K50-6-1320
pins: 1, 2

## K50-6-100U-100V-1626
designator C?  (value not drawn)
Author: pcbdesigner.ru; Value: *
footprint K50-6-1626
pins: 1, 2

## K50-6-220U-6.3V-0812
designator C?  (value not drawn)
Author: pcbdesigner.ru; Value: *
footprint K50-6-0812
pins: 1, 2

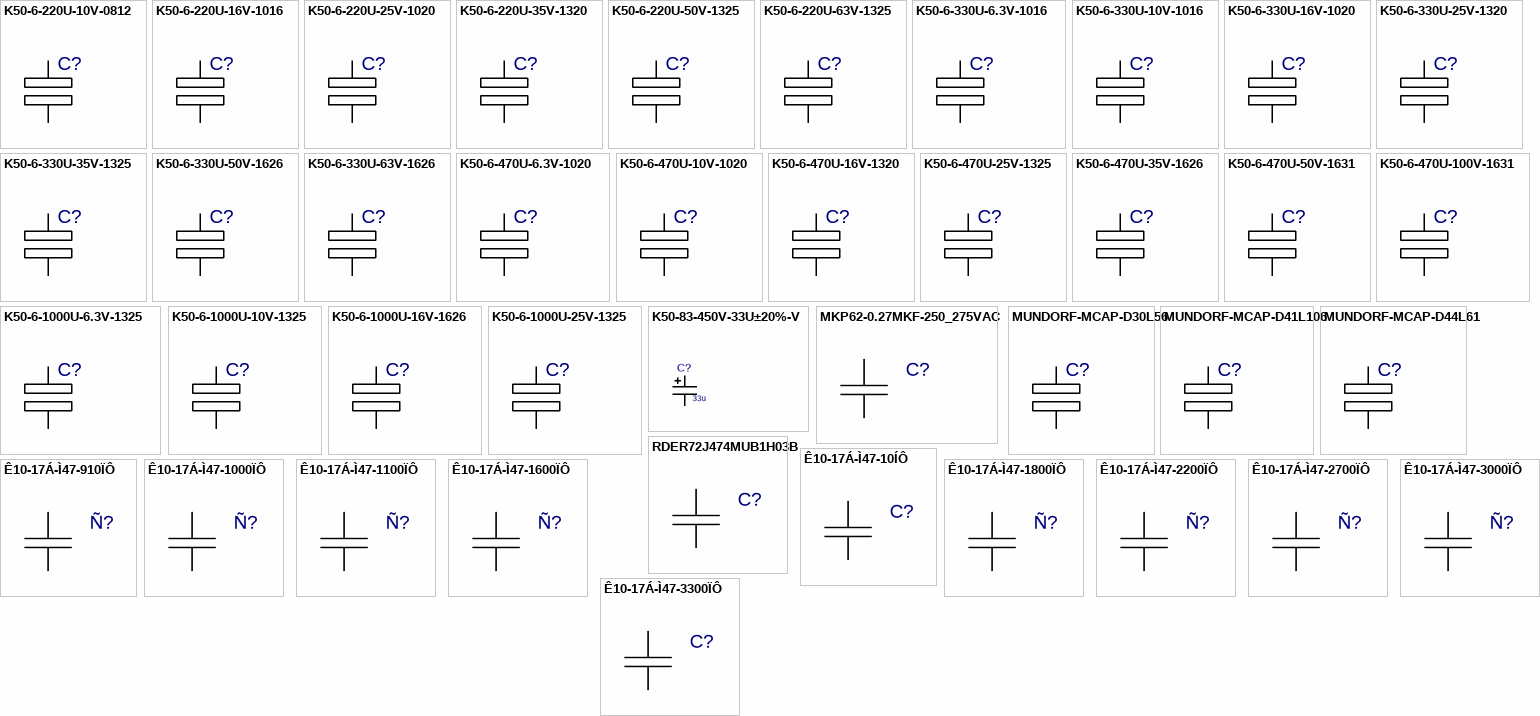
[diagram p7: symbols K50-6-220U-10V-0812 to Ê10-17Á-Ì47-3300ÏÔ]

## K50-6-220U-10V-0812
designator C?  (value not drawn)
Author: pcbdesigner.ru; Value: *
footprint K50-6-0812
pins: 1, 2

## K50-6-220U-16V-1016
designator C?  (value not drawn)
Author: pcbdesigner.ru; Value: *
footprint K50-6-1016
pins: 1, 2

## K50-6-220U-25V-1020
designator C?  (value not drawn)
Author: pcbdesigner.ru; Value: *
footprint K50-6-1020
pins: 1, 2

## K50-6-220U-35V-1320
designator C?  (value not drawn)
Author: pcbdesigner.ru; Value: *
footprint K50-6-1320
pins: 1, 2

## K50-6-220U-50V-1325
designator C?  (value not drawn)
Author: pcbdesigner.ru; Value: *
footprint K50-6-1325
pins: 1, 2

## K50-6-220U-63V-1325
designator C?  (value not drawn)
Author: pcbdesigner.ru; Value: *
footprint K50-6-1325
pins: 1, 2

## K50-6-330U-6.3V-1016
designator C?  (value not drawn)
Author: pcbdesigner.ru; Value: *
footprint K50-6-1016
pins: 1, 2

## K50-6-330U-10V-1016
designator C?  (value not drawn)
Author: pcbdesigner.ru; Value: *
footprint K50-6-1016
pins: 1, 2

## K50-6-330U-16V-1020
designator C?  (value not drawn)
Author: pcbdesigner.ru; Value: *
footprint K50-6-1020
pins: 1, 2

## K50-6-330U-25V-1320
designator C?  (value not drawn)
Author: pcbdesigner.ru; Value: *
footprint K50-6-1320
pins: 1, 2

## K50-6-330U-35V-1325
designator C?  (value not drawn)
Author: pcbdesigner.ru; Value: *
footprint K50-6-1325
pins: 1, 2

## K50-6-330U-50V-1626
designator C?  (value not drawn)
Author: pcbdesigner.ru; Value: *
footprint K50-6-1626
pins: 1, 2

## K50-6-330U-63V-1626
designator C?  (value not drawn)
Author: pcbdesigner.ru; Value: *
footprint K50-6-1626
pins: 1, 2

## K50-6-470U-6.3V-1020
designator C?  (value not drawn)
Author: pcbdesigner.ru; Value: *
footprint K50-6-1020
pins: 1, 2

## K50-6-470U-10V-1020
designator C?  (value not drawn)
Author: pcbdesigner.ru; Value: *
footprint K50-6-1020
pins: 1, 2

## K50-6-470U-16V-1320
designator C?  (value not drawn)
Author: pcbdesigner.ru; Value: *
footprint K50-6-1320
pins: 1, 2

## K50-6-470U-25V-1325
designator C?  (value not drawn)
Author: pcbdesigner.ru; Value: *
footprint K50-6-1325
pins: 1, 2

## K50-6-470U-35V-1626
designator C?  (value not drawn)
Author: pcbdesigner.ru; Value: *
footprint K50-6-1626
pins: 1, 2

## K50-6-470U-50V-1631
designator C?  (value not drawn)
Author: pcbdesigner.ru; Value: *
footprint K50-6-1631
pins: 1, 2

## K50-6-470U-100V-1631
designator C?  (value not drawn)
Author: pcbdesigner.ru; Value: *
footprint K50-6-1631
pins: 1, 2

## K50-6-1000U-6.3V-1325
designator C?  (value not drawn)
Author: pcbdesigner.ru; Value: *
footprint K50-6-1325
pins: 1, 2

## K50-6-1000U-10V-1325
designator C?  (value not drawn)
Author: pcbdesigner.ru; Value: *
footprint K50-6-1325
pins: 1, 2

## K50-6-1000U-16V-1626
designator C?  (value not drawn)
Author: pcbdesigner.ru; Value: *
footprint K50-6-1626
pins: 1, 2

## K50-6-1000U-25V-1325
designator C?  (value not drawn)
Author: pcbdesigner.ru; Value: *
footprint K50-6-1325
pins: 1, 2

## K50-83-450V-33U±20%-V
designator C?  value 33u  (hidden comment: K50-83-450V-33U±20%-V)
Bi-Polar Capacitor; OriginalName: CAPBP1; ComponentField6: Published 8-Jun-2000
simulation model CAP
footprint K50-83_L33D18P7_5_HOR
footprint K50-83_L33D18P7_5_Primary
pins: 1, 2
2 alternate drawings of the same symbol

## MKP62-0.27MKF-250_275VAC
designator C?  (value not drawn)
Value: *
footprint MKP62 250_275 VAC
pins: 1, 2

## MUNDORF-MCAP-D30L56
designator C?  (value not drawn)
Author: pcbdesigner.ru; Value: *
footprint MUNDORF-MCAP-D30L56
pins: 1, 2

## MUNDORF-MCAP-D41L106
designator C?  (value not drawn)
Author: pcbdesigner.ru; Value: *
footprint MUNDORF-MCAP-D41L106
pins: 1, 2

## MUNDORF-MCAP-D44L61
designator C?  (value not drawn)
Author: pcbdesigner.ru; Value: *
footprint MUNDORF-MCAP-D44L61
pins: 1, 2

## RDER72J474MUB1H03B
designator C?  (value not drawn)
Value: *
footprint 1210_DIP
pins: 1, 2

## Ê10-17Á-Ì47-10ÍÔ
designator C?  (value not drawn)
Value: *
footprint Ê10-17Á-4
pins: 1, 2

## Ê10-17Á-Ì47-910ÏÔ
designator Ñ?  (value not drawn)
Value: *
footprint K10-17Á-2
pins: 1, 2

## Ê10-17Á-Ì47-1000ÏÔ
designator Ñ?  (value not drawn)
Value: *
footprint K10-17Á-2
pins: 1, 2

## Ê10-17Á-Ì47-1100ÏÔ
designator Ñ?  (value not drawn)
Value: *
footprint K10-17Á-2
pins: 1, 2

## Ê10-17Á-Ì47-1600ÏÔ
designator Ñ?  (value not drawn)
Value: *
footprint K10-17Á-2
pins: 1, 2

## Ê10-17Á-Ì47-1800ÏÔ
designator Ñ?  (value not drawn)
Value: *
footprint K10-17Á-2
pins: 1, 2

## Ê10-17Á-Ì47-2200ÏÔ
designator Ñ?  (value not drawn)
Value: *
footprint K10-17Á-2
pins: 1, 2

## Ê10-17Á-Ì47-2700ÏÔ
designator Ñ?  (value not drawn)
Value: *
footprint K10-17Á-2
pins: 1, 2

## Ê10-17Á-Ì47-3000ÏÔ
designator Ñ?  (value not drawn)
Value: *
footprint K10-17Á-2
pins: 1, 2

## Ê10-17Á-Ì47-3300ÏÔ
designator C?  (value not drawn)
Value: *
footprint Ê10-17Á-4
pins: 1, 2

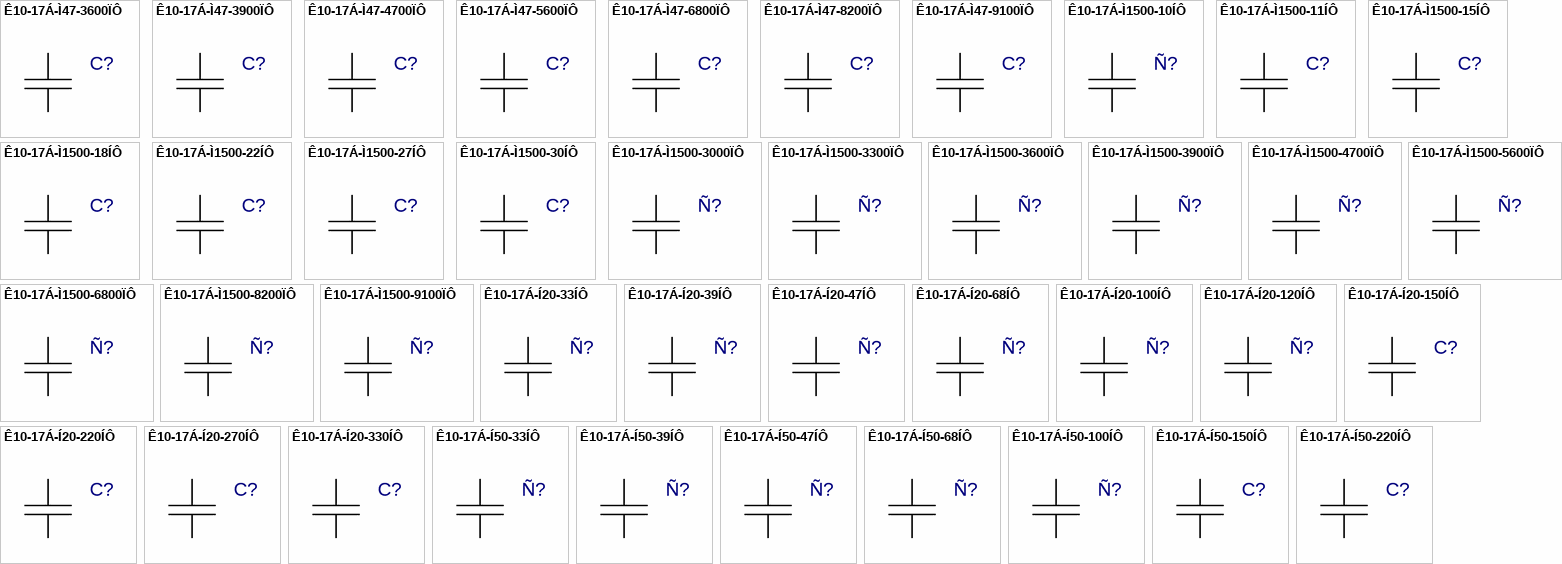
[diagram p8: symbols Ê10-17Á-Ì47-3600ÏÔ to Ê10-17Á-Í50-220ÍÔ]

## Ê10-17Á-Ì47-3600ÏÔ
designator C?  (value not drawn)
Value: *
footprint Ê10-17Á-4
pins: 1, 2

## Ê10-17Á-Ì47-3900ÏÔ
designator C?  (value not drawn)
Value: *
footprint Ê10-17Á-4
pins: 1, 2

## Ê10-17Á-Ì47-4700ÏÔ
designator C?  (value not drawn)
Value: *
footprint Ê10-17Á-4
pins: 1, 2

## Ê10-17Á-Ì47-5600ÏÔ
designator C?  (value not drawn)
Value: *
footprint Ê10-17Á-4
pins: 1, 2

## Ê10-17Á-Ì47-6800ÏÔ
designator C?  (value not drawn)
Value: *
footprint Ê10-17Á-4
pins: 1, 2

## Ê10-17Á-Ì47-8200ÏÔ
designator C?  (value not drawn)
Value: *
footprint Ê10-17Á-4
pins: 1, 2

## Ê10-17Á-Ì47-9100ÏÔ
designator C?  (value not drawn)
Value: *
footprint Ê10-17Á-4
pins: 1, 2

## Ê10-17Á-Ì1500-10ÍÔ
designator Ñ?  (value not drawn)
Value: *
footprint K10-17Á-2
pins: 1, 2

## Ê10-17Á-Ì1500-11ÍÔ
designator C?  (value not drawn)
Value: *
footprint Ê10-17Á-4
pins: 1, 2

## Ê10-17Á-Ì1500-15ÍÔ
designator C?  (value not drawn)
Value: *
footprint Ê10-17Á-4
pins: 1, 2

## Ê10-17Á-Ì1500-18ÍÔ
designator C?  (value not drawn)
Value: *
footprint Ê10-17Á-4
pins: 1, 2

## Ê10-17Á-Ì1500-22ÍÔ
designator C?  (value not drawn)
Value: *
footprint Ê10-17Á-4
pins: 1, 2

## Ê10-17Á-Ì1500-27ÍÔ
designator C?  (value not drawn)
Value: *
footprint Ê10-17Á-4
pins: 1, 2

## Ê10-17Á-Ì1500-30ÍÔ
designator C?  (value not drawn)
Value: *
footprint Ê10-17Á-4
pins: 1, 2

## Ê10-17Á-Ì1500-3000ÏÔ
designator Ñ?  (value not drawn)
Value: *
footprint K10-17Á-2
pins: 1, 2

## Ê10-17Á-Ì1500-3300ÏÔ
designator Ñ?  (value not drawn)
Value: *
footprint K10-17Á-2
pins: 1, 2

## Ê10-17Á-Ì1500-3600ÏÔ
designator Ñ?  (value not drawn)
Value: *
footprint K10-17Á-2
pins: 1, 2

## Ê10-17Á-Ì1500-3900ÏÔ
designator Ñ?  (value not drawn)
Value: *
footprint K10-17Á-2
pins: 1, 2

## Ê10-17Á-Ì1500-4700ÏÔ
designator Ñ?  (value not drawn)
Value: *
footprint K10-17Á-2
pins: 1, 2

## Ê10-17Á-Ì1500-5600ÏÔ
designator Ñ?  (value not drawn)
Value: *
footprint K10-17Á-2
pins: 1, 2

## Ê10-17Á-Ì1500-6800ÏÔ
designator Ñ?  (value not drawn)
Value: *
footprint K10-17Á-2
pins: 1, 2

## Ê10-17Á-Ì1500-8200ÏÔ
designator Ñ?  (value not drawn)
Value: *
footprint K10-17Á-2
pins: 1, 2

## Ê10-17Á-Ì1500-9100ÏÔ
designator Ñ?  (value not drawn)
Value: *
footprint K10-17Á-2
pins: 1, 2

## Ê10-17Á-Í20-33ÍÔ
designator Ñ?  (value not drawn)
Value: *
footprint K10-17Á-2
pins: 1, 2

## Ê10-17Á-Í20-39ÍÔ
designator Ñ?  (value not drawn)
Value: *
footprint K10-17Á-2
pins: 1, 2

## Ê10-17Á-Í20-47ÍÔ
designator Ñ?  (value not drawn)
Value: *
footprint K10-17Á-2
pins: 1, 2

## Ê10-17Á-Í20-68ÍÔ
designator Ñ?  (value not drawn)
Value: *
footprint K10-17Á-2
pins: 1, 2

## Ê10-17Á-Í20-100ÍÔ
designator Ñ?  (value not drawn)
Value: *
footprint K10-17Á-2
pins: 1, 2

## Ê10-17Á-Í20-120ÍÔ
designator Ñ?  (value not drawn)
Value: *
footprint K10-17Á-2
pins: 1, 2

## Ê10-17Á-Í20-150ÍÔ
designator C?  (value not drawn)
Value: *
footprint Ê10-17Á-4
pins: 1, 2

## Ê10-17Á-Í20-220ÍÔ
designator C?  (value not drawn)
Value: *
footprint Ê10-17Á-4
pins: 1, 2

## Ê10-17Á-Í20-270ÍÔ
designator C?  (value not drawn)
Value: *
footprint Ê10-17Á-4
pins: 1, 2

## Ê10-17Á-Í20-330ÍÔ
designator C?  (value not drawn)
Value: *
footprint Ê10-17Á-4
pins: 1, 2

## Ê10-17Á-Í50-33ÍÔ
designator Ñ?  (value not drawn)
Value: *
footprint K10-17Á-2
pins: 1, 2

## Ê10-17Á-Í50-39ÍÔ
designator Ñ?  (value not drawn)
Value: *
footprint K10-17Á-2
pins: 1, 2

## Ê10-17Á-Í50-47ÍÔ
designator Ñ?  (value not drawn)
Value: *
footprint K10-17Á-2
pins: 1, 2

## Ê10-17Á-Í50-68ÍÔ
designator Ñ?  (value not drawn)
Value: *
footprint K10-17Á-2
pins: 1, 2

## Ê10-17Á-Í50-100ÍÔ
designator Ñ?  (value not drawn)
Value: *
footprint K10-17Á-2
pins: 1, 2

## Ê10-17Á-Í50-150ÍÔ
designator C?  (value not drawn)
Value: *
footprint Ê10-17Á-4
pins: 1, 2

## Ê10-17Á-Í50-220ÍÔ
designator C?  (value not drawn)
Value: *
footprint Ê10-17Á-4
pins: 1, 2

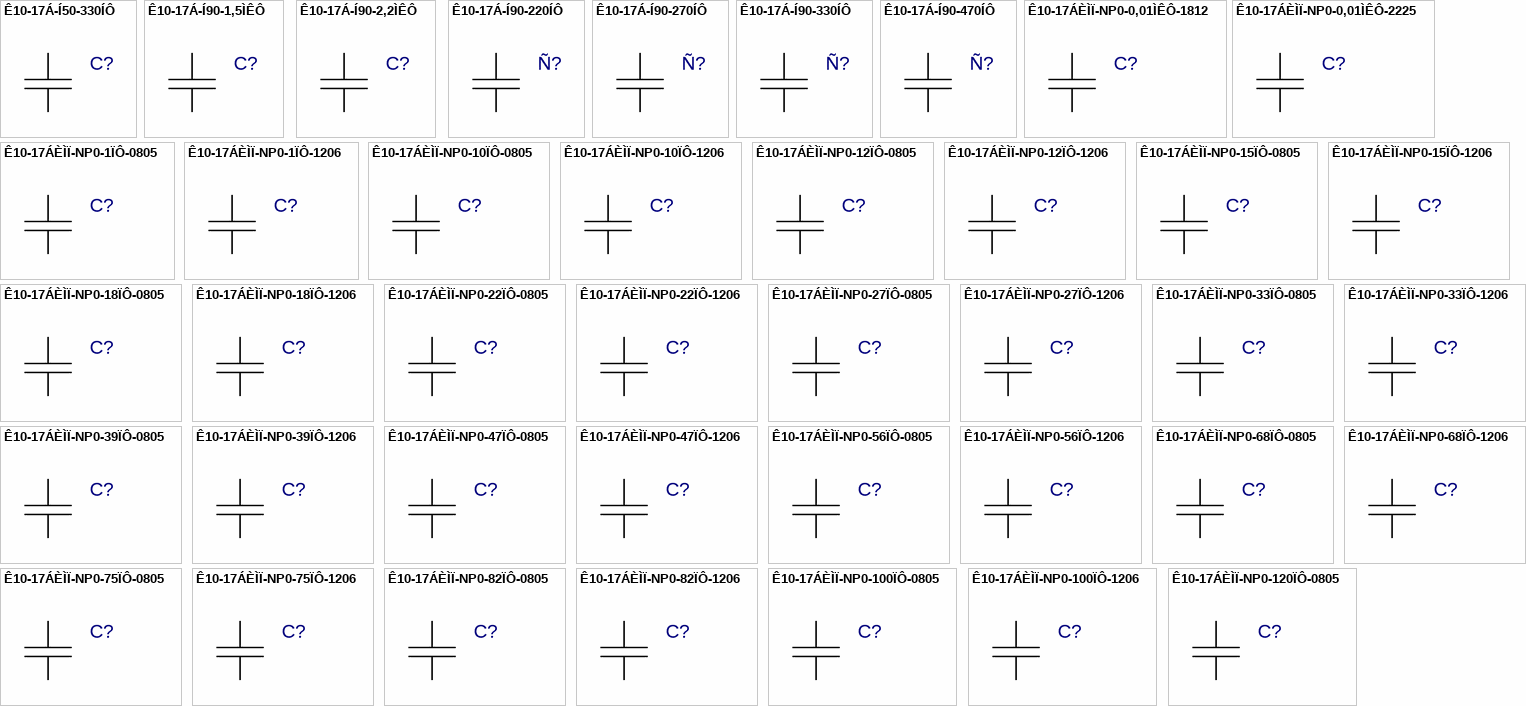
[diagram p9: symbols Ê10-17Á-Í50-330ÍÔ to Ê10-17ÁÈÌÏ-NP0-120ÏÔ-0805]

## Ê10-17Á-Í50-330ÍÔ
designator C?  (value not drawn)
Value: *
footprint Ê10-17Á-4
pins: 1, 2

## Ê10-17Á-Í90-1,5ÌÊÔ
designator C?  (value not drawn)
Value: *
footprint Ê10-17Á-4
pins: 1, 2

## Ê10-17Á-Í90-2,2ÌÊÔ
designator C?  (value not drawn)
Value: *
footprint Ê10-17Á-4
pins: 1, 2

## Ê10-17Á-Í90-220ÍÔ
designator Ñ?  (value not drawn)
Value: *
footprint K10-17Á-2
pins: 1, 2

## Ê10-17Á-Í90-270ÍÔ
designator Ñ?  (value not drawn)
Value: *
footprint K10-17Á-2
pins: 1, 2

## Ê10-17Á-Í90-330ÍÔ
designator Ñ?  (value not drawn)
Value: *
footprint K10-17Á-2
pins: 1, 2

## Ê10-17Á-Í90-470ÍÔ
designator Ñ?  (value not drawn)
Value: *
footprint K10-17Á-2
pins: 1, 2

## Ê10-17ÁÈÌÏ-NP0-0,01ÌÊÔ-1812
designator C?  (value not drawn)
Value: *
footprint 1812_DIP
pins: 1, 2

## Ê10-17ÁÈÌÏ-NP0-0,01ÌÊÔ-2225
designator C?  (value not drawn)
Value: *
footprint 2225_DIP
pins: 1, 2

## Ê10-17ÁÈÌÏ-NP0-1ÏÔ-0805
designator C?  (value not drawn)
Value: *
footprint 0805_DIP
pins: 1, 2

## Ê10-17ÁÈÌÏ-NP0-1ÏÔ-1206
designator C?  (value not drawn)
Value: *
footprint 1206_DIP
pins: 1, 2

## Ê10-17ÁÈÌÏ-NP0-10ÏÔ-0805
designator C?  (value not drawn)
Value: *
footprint 0805_DIP
pins: 1, 2

## Ê10-17ÁÈÌÏ-NP0-10ÏÔ-1206
designator C?  (value not drawn)
Value: *
footprint 1206_DIP
pins: 1, 2

## Ê10-17ÁÈÌÏ-NP0-12ÏÔ-0805
designator C?  (value not drawn)
Value: *
footprint 0805_DIP
pins: 1, 2

## Ê10-17ÁÈÌÏ-NP0-12ÏÔ-1206
designator C?  (value not drawn)
Value: *
footprint 1206_DIP
pins: 1, 2

## Ê10-17ÁÈÌÏ-NP0-15ÏÔ-0805
designator C?  (value not drawn)
Value: *
footprint 0805_DIP
pins: 1, 2

## Ê10-17ÁÈÌÏ-NP0-15ÏÔ-1206
designator C?  (value not drawn)
Value: *
footprint 1206_DIP
pins: 1, 2

## Ê10-17ÁÈÌÏ-NP0-18ÏÔ-0805
designator C?  (value not drawn)
Value: *
footprint 0805_DIP
pins: 1, 2

## Ê10-17ÁÈÌÏ-NP0-18ÏÔ-1206
designator C?  (value not drawn)
Value: *
footprint 1206_DIP
pins: 1, 2

## Ê10-17ÁÈÌÏ-NP0-22ÏÔ-0805
designator C?  (value not drawn)
Value: *
footprint 0805_DIP
pins: 1, 2

## Ê10-17ÁÈÌÏ-NP0-22ÏÔ-1206
designator C?  (value not drawn)
Value: *
footprint 1206_DIP
pins: 1, 2

## Ê10-17ÁÈÌÏ-NP0-27ÏÔ-0805
designator C?  (value not drawn)
Value: *
footprint 0805_DIP
pins: 1, 2

## Ê10-17ÁÈÌÏ-NP0-27ÏÔ-1206
designator C?  (value not drawn)
Value: *
footprint 1206_DIP
pins: 1, 2

## Ê10-17ÁÈÌÏ-NP0-33ÏÔ-0805
designator C?  (value not drawn)
Value: *
footprint 0805_DIP
pins: 1, 2

## Ê10-17ÁÈÌÏ-NP0-33ÏÔ-1206
designator C?  (value not drawn)
Value: *
footprint 1206_DIP
pins: 1, 2

## Ê10-17ÁÈÌÏ-NP0-39ÏÔ-0805
designator C?  (value not drawn)
Value: *
footprint 0805_DIP
pins: 1, 2

## Ê10-17ÁÈÌÏ-NP0-39ÏÔ-1206
designator C?  (value not drawn)
Value: *
footprint 1206_DIP
pins: 1, 2

## Ê10-17ÁÈÌÏ-NP0-47ÏÔ-0805
designator C?  (value not drawn)
Value: *
footprint 0805_DIP
pins: 1, 2

## Ê10-17ÁÈÌÏ-NP0-47ÏÔ-1206
designator C?  (value not drawn)
Value: *
footprint 1206_DIP
pins: 1, 2

## Ê10-17ÁÈÌÏ-NP0-56ÏÔ-0805
designator C?  (value not drawn)
Value: *
footprint 0805_DIP
pins: 1, 2

## Ê10-17ÁÈÌÏ-NP0-56ÏÔ-1206
designator C?  (value not drawn)
Value: *
footprint 1206_DIP
pins: 1, 2

## Ê10-17ÁÈÌÏ-NP0-68ÏÔ-0805
designator C?  (value not drawn)
Value: *
footprint 0805_DIP
pins: 1, 2

## Ê10-17ÁÈÌÏ-NP0-68ÏÔ-1206
designator C?  (value not drawn)
Value: *
footprint 1206_DIP
pins: 1, 2

## Ê10-17ÁÈÌÏ-NP0-75ÏÔ-0805
designator C?  (value not drawn)
Value: *
footprint 0805_DIP
pins: 1, 2

## Ê10-17ÁÈÌÏ-NP0-75ÏÔ-1206
designator C?  (value not drawn)
Value: *
footprint 1206_DIP
pins: 1, 2

## Ê10-17ÁÈÌÏ-NP0-82ÏÔ-0805
designator C?  (value not drawn)
Value: *
footprint 0805_DIP
pins: 1, 2

## Ê10-17ÁÈÌÏ-NP0-82ÏÔ-1206
designator C?  (value not drawn)
Value: *
footprint 1206_DIP
pins: 1, 2

## Ê10-17ÁÈÌÏ-NP0-100ÏÔ-0805
designator C?  (value not drawn)
Value: *
footprint 0805_DIP
pins: 1, 2

## Ê10-17ÁÈÌÏ-NP0-100ÏÔ-1206
designator C?  (value not drawn)
Value: *
footprint 1206_DIP
pins: 1, 2

## Ê10-17ÁÈÌÏ-NP0-120ÏÔ-0805
designator C?  (value not drawn)
Value: *
footprint 0805_DIP
pins: 1, 2

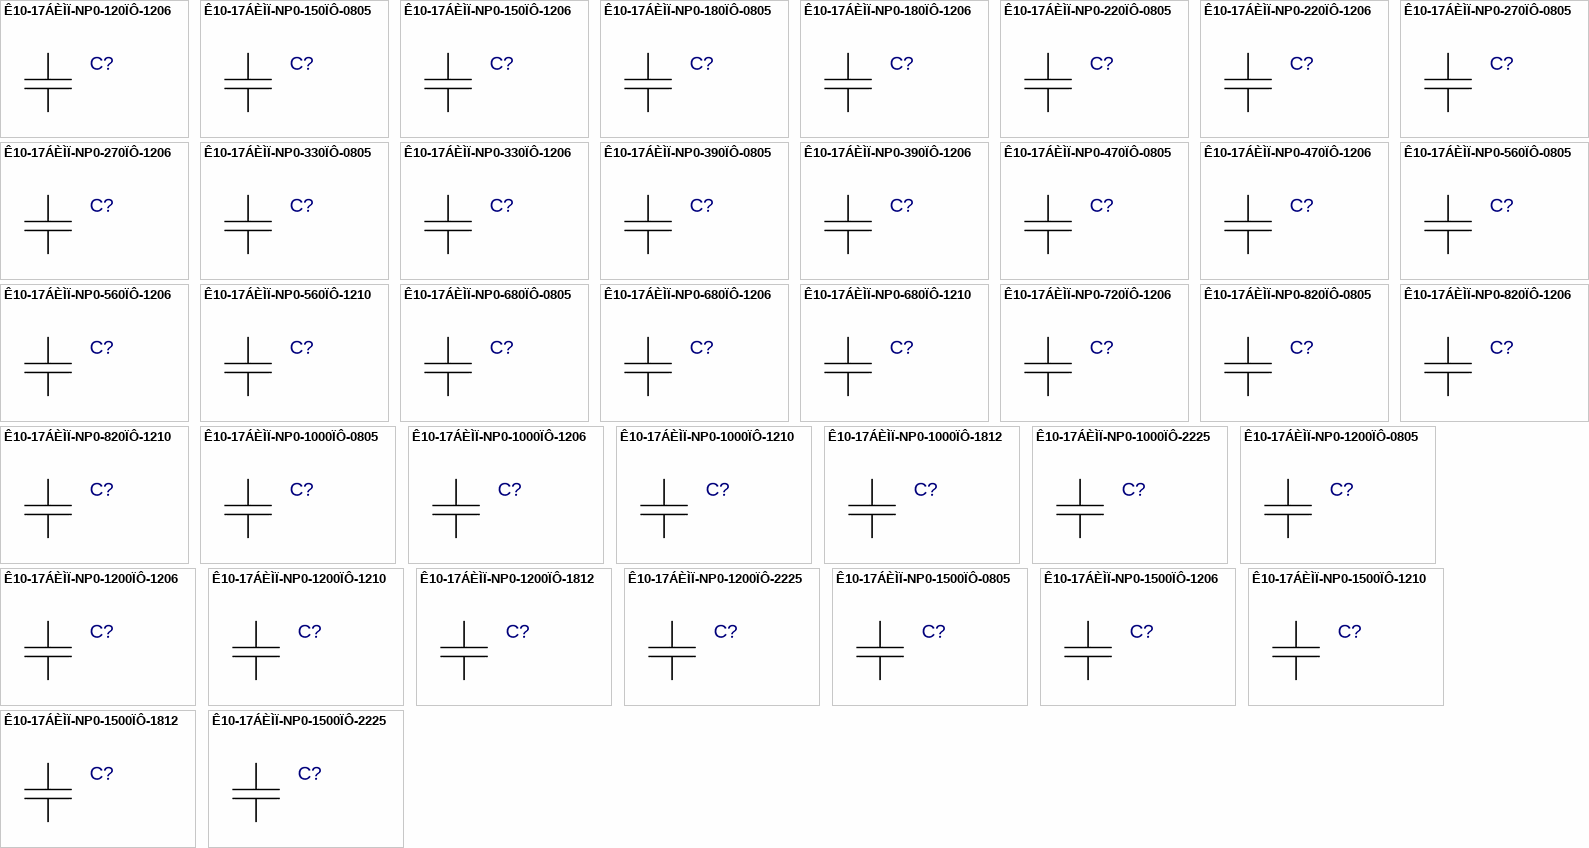
[diagram p10: symbols Ê10-17ÁÈÌÏ-NP0-120ÏÔ-1206 to Ê10-17ÁÈÌÏ-NP0-1500ÏÔ-2225]

## Ê10-17ÁÈÌÏ-NP0-120ÏÔ-1206
designator C?  (value not drawn)
Value: *
footprint 1206_DIP
pins: 1, 2

## Ê10-17ÁÈÌÏ-NP0-150ÏÔ-0805
designator C?  (value not drawn)
Value: *
footprint 0805_DIP
pins: 1, 2

## Ê10-17ÁÈÌÏ-NP0-150ÏÔ-1206
designator C?  (value not drawn)
Value: *
footprint 1206_DIP
pins: 1, 2

## Ê10-17ÁÈÌÏ-NP0-180ÏÔ-0805
designator C?  (value not drawn)
Value: *
footprint 0805_DIP
pins: 1, 2

## Ê10-17ÁÈÌÏ-NP0-180ÏÔ-1206
designator C?  (value not drawn)
Value: *
footprint 1206_DIP
pins: 1, 2

## Ê10-17ÁÈÌÏ-NP0-220ÏÔ-0805
designator C?  (value not drawn)
Value: *
footprint 0805_DIP
pins: 1, 2

## Ê10-17ÁÈÌÏ-NP0-220ÏÔ-1206
designator C?  (value not drawn)
Value: *
footprint 1206_DIP
pins: 1, 2

## Ê10-17ÁÈÌÏ-NP0-270ÏÔ-0805
designator C?  (value not drawn)
Value: *
footprint 0805_DIP
pins: 1, 2

## Ê10-17ÁÈÌÏ-NP0-270ÏÔ-1206
designator C?  (value not drawn)
Value: *
footprint 1206_DIP
pins: 1, 2

## Ê10-17ÁÈÌÏ-NP0-330ÏÔ-0805
designator C?  (value not drawn)
Value: *
footprint 0805_DIP
pins: 1, 2

## Ê10-17ÁÈÌÏ-NP0-330ÏÔ-1206
designator C?  (value not drawn)
Value: *
footprint 1206_DIP
pins: 1, 2

## Ê10-17ÁÈÌÏ-NP0-390ÏÔ-0805
designator C?  (value not drawn)
Value: *
footprint 0805_DIP
pins: 1, 2

## Ê10-17ÁÈÌÏ-NP0-390ÏÔ-1206
designator C?  (value not drawn)
Value: *
footprint 1206_DIP
pins: 1, 2

## Ê10-17ÁÈÌÏ-NP0-470ÏÔ-0805
designator C?  (value not drawn)
Value: *
footprint 0805_DIP
pins: 1, 2

## Ê10-17ÁÈÌÏ-NP0-470ÏÔ-1206
designator C?  (value not drawn)
Value: *
footprint 1206_DIP
pins: 1, 2

## Ê10-17ÁÈÌÏ-NP0-560ÏÔ-0805
designator C?  (value not drawn)
Value: *
footprint 0805_DIP
pins: 1, 2

## Ê10-17ÁÈÌÏ-NP0-560ÏÔ-1206
designator C?  (value not drawn)
Value: *
footprint 1206_DIP
pins: 1, 2

## Ê10-17ÁÈÌÏ-NP0-560ÏÔ-1210
designator C?  (value not drawn)
Value: *
footprint 1210_DIP
pins: 1, 2

## Ê10-17ÁÈÌÏ-NP0-680ÏÔ-0805
designator C?  (value not drawn)
Value: *
footprint 0805_DIP
pins: 1, 2

## Ê10-17ÁÈÌÏ-NP0-680ÏÔ-1206
designator C?  (value not drawn)
Value: *
footprint 1206_DIP
pins: 1, 2

## Ê10-17ÁÈÌÏ-NP0-680ÏÔ-1210
designator C?  (value not drawn)
Value: *
footprint 1210_DIP
pins: 1, 2

## Ê10-17ÁÈÌÏ-NP0-720ÏÔ-1206
designator C?  (value not drawn)
Value: *
footprint 1206_DIP
pins: 1, 2

## Ê10-17ÁÈÌÏ-NP0-820ÏÔ-0805
designator C?  (value not drawn)
Value: *
footprint 0805_DIP
pins: 1, 2

## Ê10-17ÁÈÌÏ-NP0-820ÏÔ-1206
designator C?  (value not drawn)
Value: *
footprint 1206_DIP
pins: 1, 2

## Ê10-17ÁÈÌÏ-NP0-820ÏÔ-1210
designator C?  (value not drawn)
Value: *
footprint 1210_DIP
pins: 1, 2

## Ê10-17ÁÈÌÏ-NP0-1000ÏÔ-0805
designator C?  (value not drawn)
Value: *
footprint 0805_DIP
pins: 1, 2

## Ê10-17ÁÈÌÏ-NP0-1000ÏÔ-1206
designator C?  (value not drawn)
Value: *
footprint 1206_DIP
pins: 1, 2

## Ê10-17ÁÈÌÏ-NP0-1000ÏÔ-1210
designator C?  (value not drawn)
Value: *
footprint 1210_DIP
pins: 1, 2

## Ê10-17ÁÈÌÏ-NP0-1000ÏÔ-1812
designator C?  (value not drawn)
Value: *
footprint 1812_DIP
pins: 1, 2

## Ê10-17ÁÈÌÏ-NP0-1000ÏÔ-2225
designator C?  (value not drawn)
Value: *
footprint 2225_DIP
pins: 1, 2

## Ê10-17ÁÈÌÏ-NP0-1200ÏÔ-0805
designator C?  (value not drawn)
Value: *
footprint 0805_DIP
pins: 1, 2

## Ê10-17ÁÈÌÏ-NP0-1200ÏÔ-1206
designator C?  (value not drawn)
Value: *
footprint 1206_DIP
pins: 1, 2

## Ê10-17ÁÈÌÏ-NP0-1200ÏÔ-1210
designator C?  (value not drawn)
Value: *
footprint 1210_DIP
pins: 1, 2

## Ê10-17ÁÈÌÏ-NP0-1200ÏÔ-1812
designator C?  (value not drawn)
Value: *
footprint 1812_DIP
pins: 1, 2

## Ê10-17ÁÈÌÏ-NP0-1200ÏÔ-2225
designator C?  (value not drawn)
Value: *
footprint 2225_DIP
pins: 1, 2

## Ê10-17ÁÈÌÏ-NP0-1500ÏÔ-0805
designator C?  (value not drawn)
Value: *
footprint 0805_DIP
pins: 1, 2

## Ê10-17ÁÈÌÏ-NP0-1500ÏÔ-1206
designator C?  (value not drawn)
Value: *
footprint 1206_DIP
pins: 1, 2

## Ê10-17ÁÈÌÏ-NP0-1500ÏÔ-1210
designator C?  (value not drawn)
Value: *
footprint 1210_DIP
pins: 1, 2

## Ê10-17ÁÈÌÏ-NP0-1500ÏÔ-1812
designator C?  (value not drawn)
Value: *
footprint 1812_DIP
pins: 1, 2

## Ê10-17ÁÈÌÏ-NP0-1500ÏÔ-2225
designator C?  (value not drawn)
Value: *
footprint 2225_DIP
pins: 1, 2

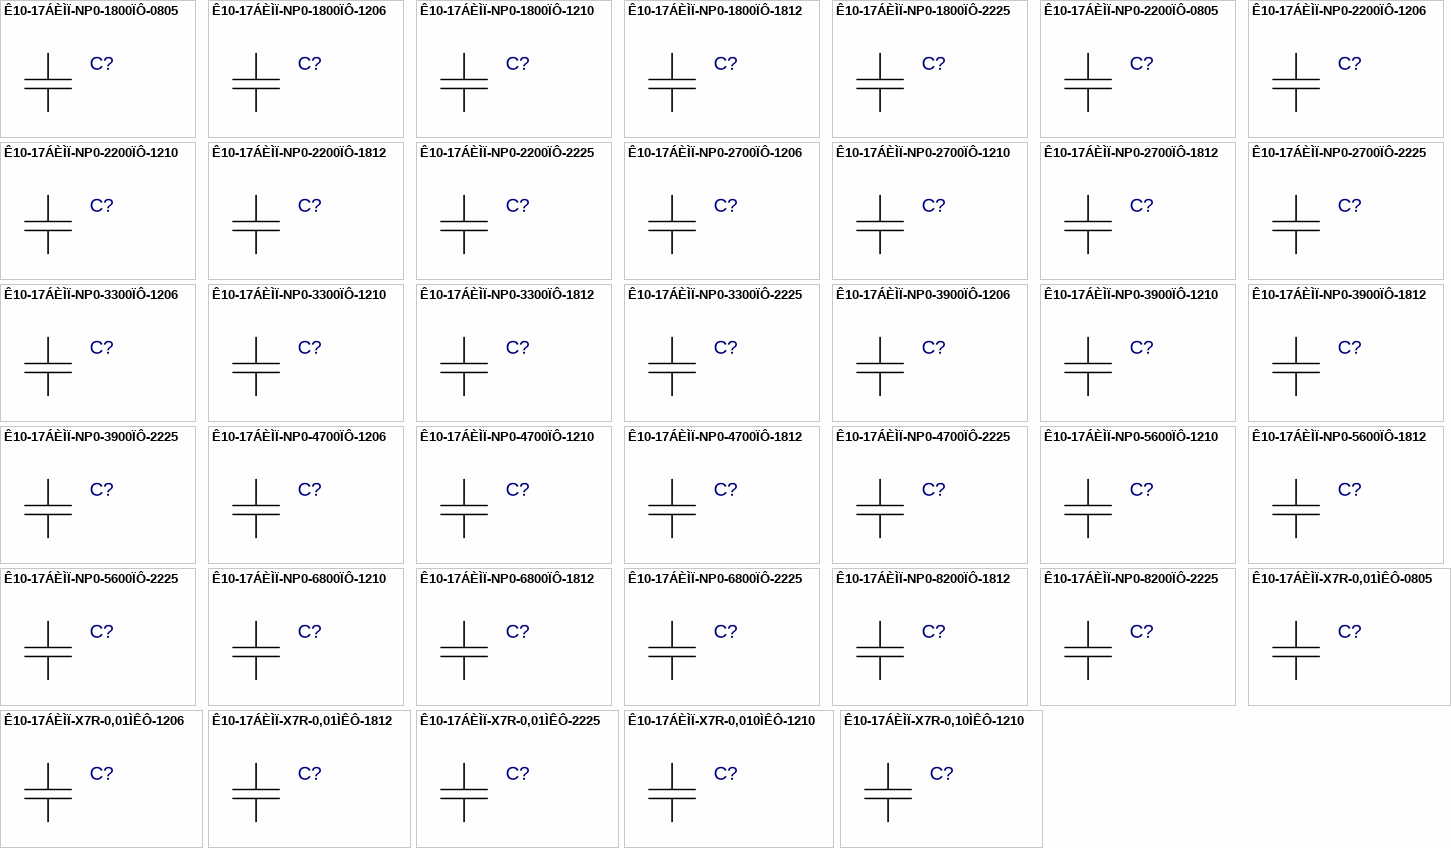
[diagram p11: symbols Ê10-17ÁÈÌÏ-NP0-1800ÏÔ-0805 to Ê10-17ÁÈÌÏ-X7R-0,10ÌÊÔ-1210]

## Ê10-17ÁÈÌÏ-NP0-1800ÏÔ-0805
designator C?  (value not drawn)
Value: *
footprint 0805_DIP
pins: 1, 2

## Ê10-17ÁÈÌÏ-NP0-1800ÏÔ-1206
designator C?  (value not drawn)
Value: *
footprint 1206_DIP
pins: 1, 2

## Ê10-17ÁÈÌÏ-NP0-1800ÏÔ-1210
designator C?  (value not drawn)
Value: *
footprint 1210_DIP
pins: 1, 2

## Ê10-17ÁÈÌÏ-NP0-1800ÏÔ-1812
designator C?  (value not drawn)
Value: *
footprint 1812_DIP
pins: 1, 2

## Ê10-17ÁÈÌÏ-NP0-1800ÏÔ-2225
designator C?  (value not drawn)
Value: *
footprint 2225_DIP
pins: 1, 2

## Ê10-17ÁÈÌÏ-NP0-2200ÏÔ-0805
designator C?  (value not drawn)
Value: *
footprint 0805_DIP
pins: 1, 2

## Ê10-17ÁÈÌÏ-NP0-2200ÏÔ-1206
designator C?  (value not drawn)
Value: *
footprint 1206_DIP
pins: 1, 2

## Ê10-17ÁÈÌÏ-NP0-2200ÏÔ-1210
designator C?  (value not drawn)
Value: *
footprint 1210_DIP
pins: 1, 2

## Ê10-17ÁÈÌÏ-NP0-2200ÏÔ-1812
designator C?  (value not drawn)
Value: *
footprint 1812_DIP
pins: 1, 2

## Ê10-17ÁÈÌÏ-NP0-2200ÏÔ-2225
designator C?  (value not drawn)
Value: *
footprint 2225_DIP
pins: 1, 2

## Ê10-17ÁÈÌÏ-NP0-2700ÏÔ-1206
designator C?  (value not drawn)
Value: *
footprint 1206_DIP
pins: 1, 2

## Ê10-17ÁÈÌÏ-NP0-2700ÏÔ-1210
designator C?  (value not drawn)
Value: *
footprint 1210_DIP
pins: 1, 2

## Ê10-17ÁÈÌÏ-NP0-2700ÏÔ-1812
designator C?  (value not drawn)
Value: *
footprint 1812_DIP
pins: 1, 2

## Ê10-17ÁÈÌÏ-NP0-2700ÏÔ-2225
designator C?  (value not drawn)
Value: *
footprint 2225_DIP
pins: 1, 2

## Ê10-17ÁÈÌÏ-NP0-3300ÏÔ-1206
designator C?  (value not drawn)
Value: *
footprint 1206_DIP
pins: 1, 2

## Ê10-17ÁÈÌÏ-NP0-3300ÏÔ-1210
designator C?  (value not drawn)
Value: *
footprint 1210_DIP
pins: 1, 2

## Ê10-17ÁÈÌÏ-NP0-3300ÏÔ-1812
designator C?  (value not drawn)
Value: *
footprint 1812_DIP
pins: 1, 2

## Ê10-17ÁÈÌÏ-NP0-3300ÏÔ-2225
designator C?  (value not drawn)
Value: *
footprint 2225_DIP
pins: 1, 2

## Ê10-17ÁÈÌÏ-NP0-3900ÏÔ-1206
designator C?  (value not drawn)
Value: *
footprint 1206_DIP
pins: 1, 2

## Ê10-17ÁÈÌÏ-NP0-3900ÏÔ-1210
designator C?  (value not drawn)
Value: *
footprint 1210_DIP
pins: 1, 2

## Ê10-17ÁÈÌÏ-NP0-3900ÏÔ-1812
designator C?  (value not drawn)
Value: *
footprint 1812_DIP
pins: 1, 2

## Ê10-17ÁÈÌÏ-NP0-3900ÏÔ-2225
designator C?  (value not drawn)
Value: *
footprint 2225_DIP
pins: 1, 2

## Ê10-17ÁÈÌÏ-NP0-4700ÏÔ-1206
designator C?  (value not drawn)
Value: *
footprint 1206_DIP
pins: 1, 2

## Ê10-17ÁÈÌÏ-NP0-4700ÏÔ-1210
designator C?  (value not drawn)
Value: *
footprint 1210_DIP
pins: 1, 2

## Ê10-17ÁÈÌÏ-NP0-4700ÏÔ-1812
designator C?  (value not drawn)
Value: *
footprint 1812_DIP
pins: 1, 2

## Ê10-17ÁÈÌÏ-NP0-4700ÏÔ-2225
designator C?  (value not drawn)
Value: *
footprint 2225_DIP
pins: 1, 2

## Ê10-17ÁÈÌÏ-NP0-5600ÏÔ-1210
designator C?  (value not drawn)
Value: *
footprint 1210_DIP
pins: 1, 2

## Ê10-17ÁÈÌÏ-NP0-5600ÏÔ-1812
designator C?  (value not drawn)
Value: *
footprint 1812_DIP
pins: 1, 2

## Ê10-17ÁÈÌÏ-NP0-5600ÏÔ-2225
designator C?  (value not drawn)
Value: *
footprint 2225_DIP
pins: 1, 2

## Ê10-17ÁÈÌÏ-NP0-6800ÏÔ-1210
designator C?  (value not drawn)
Value: *
footprint 1210_DIP
pins: 1, 2